# Altium schematic symbol library MCU_Microchip_ATmega.SchLib: 440 symbols (part 6 of 9)
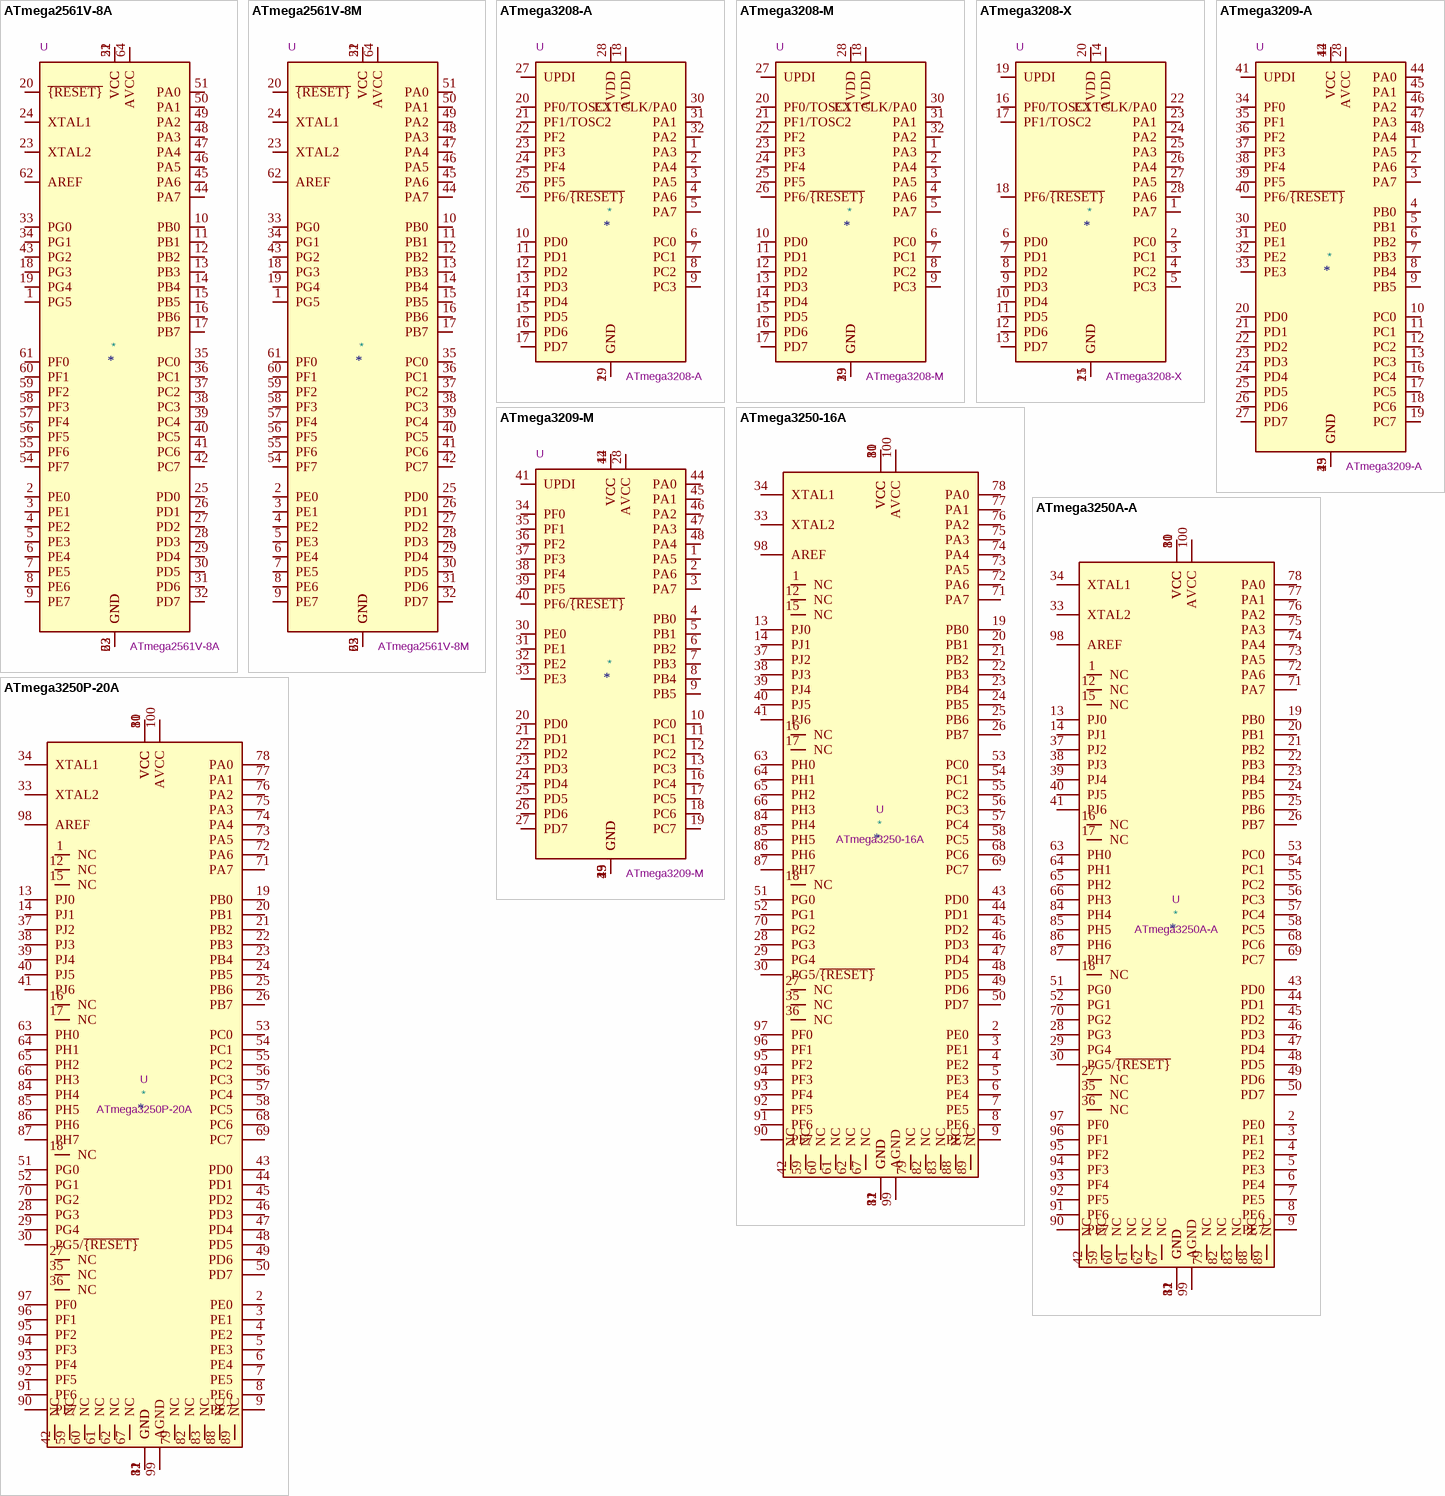
[diagram p45: symbols ATmega2561V-8A to ATmega3250P-20A]

## ATmega3250-16A
designator *  value ATmega3250-16A  Reference: U
16MHz, 32kB Flash, 2kB SRAM, 1kB EEPROM, JTAG, TQFP-100; ki_keywords: AVR 8bit Microcontroller MegaAVR; ki_fp_filters: TQFP*14x14mm*P0.5mm*; Footprint: Package_QFP:TQFP-100_14x14mm_P0.5mm; Datasheet: http://ww1.microchip.com/downloads/en/DeviceDoc/doc2570.pdf; Description_: 16MHz, 32kB Flash, 2kB SRAM, 1kB EEPROM, JTAG, TQFP-100
pins: 1 NC, 2 PE0, 3 PE1, 4 PE2, 5 PE3, 6 PE4, 7 PE5, 8 PE6, 9 PE7, 10 VCC, 11 GND, 12 NC, 13 PJ0, 14 PJ1, 15 NC, 16 NC, 17 NC, 18 NC, 19 PB0, 20 PB1, 21 PB2, 22 PB3, 23 PB4, 24 PB5, 25 PB6, 26 PB7, 27 NC, 28 PG3, 29 PG4, 30 PG5/~{{RESET}}, 31 VCC, 32 GND, 33 XTAL2, 34 XTAL1, 35 NC, 36 NC, 37 PJ2, 38 PJ3, 39 PJ4, 40 PJ5, 41 PJ6, 42 NC, 43 PD0, 44 PD1, 45 PD2, 46 PD3, 47 PD4, 48 PD5, 49 PD6, 50 PD7, 51 PG0, 52 PG1, 53 PC0, 54 PC1, 55 PC2, 56 PC3, 57 PC4, 58 PC5, 59 NC, 60 NC, 61 NC, 62 NC, 63 PH0, 64 PH1, 65 PH2, 66 PH3, 67 NC, 68 PC6, 69 PC7, 70 PG2, 71 PA7, 72 PA6, 73 PA5, 74 PA4, 75 PA3, 76 PA2, 77 PA1, 78 PA0, 79 NC, 80 VCC, 81 GND, 82 NC, 83 NC, 84 PH4, 85 PH5, 86 PH6, 87 PH7, 88 NC, 89 NC, 90 PF7, 91 PF6, 92 PF5, 93 PF4, 94 PF3, 95 PF2, 96 PF1, 97 PF0, 98 AREF, 99 AGND, 100 AVCC

## ATmega3250A-A
designator *  value ATmega3250A-A  Reference: U
20MHz, 32kB Flash, 2kB SRAM, 1kB EEPROM, JTAG, TQFP-100; ki_keywords: AVR 8bit Microcontroller MegaAVR; ki_fp_filters: TQFP*14x14mm*P0.5mm*; Footprint: Package_QFP:TQFP-100_14x14mm_P0.5mm; Datasheet: http://ww1.microchip.com/downloads/en/DeviceDoc/atmel-8285-8-bit-avr-microcontroller-atmega165a_pa_325a_pa_3250a_pa_645a_p_6450a_p_datasheet.pdf; Description_: 20MHz, 32kB Flash, 2kB SRAM, 1kB EEPROM, JTAG, TQFP-100
pins: 1 NC, 2 PE0, 3 PE1, 4 PE2, 5 PE3, 6 PE4, 7 PE5, 8 PE6, 9 PE7, 10 VCC, 11 GND, 12 NC, 13 PJ0, 14 PJ1, 15 NC, 16 NC, 17 NC, 18 NC, 19 PB0, 20 PB1, 21 PB2, 22 PB3, 23 PB4, 24 PB5, 25 PB6, 26 PB7, 27 NC, 28 PG3, 29 PG4, 30 PG5/~{{RESET}}, 31 VCC, 32 GND, 33 XTAL2, 34 XTAL1, 35 NC, 36 NC, 37 PJ2, 38 PJ3, 39 PJ4, 40 PJ5, 41 PJ6, 42 NC, 43 PD0, 44 PD1, 45 PD2, 46 PD3, 47 PD4, 48 PD5, 49 PD6, 50 PD7, 51 PG0, 52 PG1, 53 PC0, 54 PC1, 55 PC2, 56 PC3, 57 PC4, 58 PC5, 59 NC, 60 NC, 61 NC, 62 NC, 63 PH0, 64 PH1, 65 PH2, 66 PH3, 67 NC, 68 PC6, 69 PC7, 70 PG2, 71 PA7, 72 PA6, 73 PA5, 74 PA4, 75 PA3, 76 PA2, 77 PA1, 78 PA0, 79 NC, 80 VCC, 81 GND, 82 NC, 83 NC, 84 PH4, 85 PH5, 86 PH6, 87 PH7, 88 NC, 89 NC, 90 PF7, 91 PF6, 92 PF5, 93 PF4, 94 PF3, 95 PF2, 96 PF1, 97 PF0, 98 AREF, 99 AGND, 100 AVCC

## ATmega3250P-20A
designator *  value ATmega3250P-20A  Reference: U
20MHz, 32kB Flash, 2kB SRAM, 1kB EEPROM, JTAG, TQFP-100; ki_keywords: AVR 8bit Microcontroller MegaAVR; ki_fp_filters: TQFP*14x14mm*P0.5mm*; Footprint: Package_QFP:TQFP-100_14x14mm_P0.5mm; Datasheet: http://ww1.microchip.com/downloads/en/DeviceDoc/doc8023.pdf; Description_: 20MHz, 32kB Flash, 2kB SRAM, 1kB EEPROM, JTAG, TQFP-100
pins: 1 NC, 2 PE0, 3 PE1, 4 PE2, 5 PE3, 6 PE4, 7 PE5, 8 PE6, 9 PE7, 10 VCC, 11 GND, 12 NC, 13 PJ0, 14 PJ1, 15 NC, 16 NC, 17 NC, 18 NC, 19 PB0, 20 PB1, 21 PB2, 22 PB3, 23 PB4, 24 PB5, 25 PB6, 26 PB7, 27 NC, 28 PG3, 29 PG4, 30 PG5/~{{RESET}}, 31 VCC, 32 GND, 33 XTAL2, 34 XTAL1, 35 NC, 36 NC, 37 PJ2, 38 PJ3, 39 PJ4, 40 PJ5, 41 PJ6, 42 NC, 43 PD0, 44 PD1, 45 PD2, 46 PD3, 47 PD4, 48 PD5, 49 PD6, 50 PD7, 51 PG0, 52 PG1, 53 PC0, 54 PC1, 55 PC2, 56 PC3, 57 PC4, 58 PC5, 59 NC, 60 NC, 61 NC, 62 NC, 63 PH0, 64 PH1, 65 PH2, 66 PH3, 67 NC, 68 PC6, 69 PC7, 70 PG2, 71 PA7, 72 PA6, 73 PA5, 74 PA4, 75 PA3, 76 PA2, 77 PA1, 78 PA0, 79 NC, 80 VCC, 81 GND, 82 NC, 83 NC, 84 PH4, 85 PH5, 86 PH6, 87 PH7, 88 NC, 89 NC, 90 PF7, 91 PF6, 92 PF5, 93 PF4, 94 PF3, 95 PF2, 96 PF1, 97 PF0, 98 AREF, 99 AGND, 100 AVCC

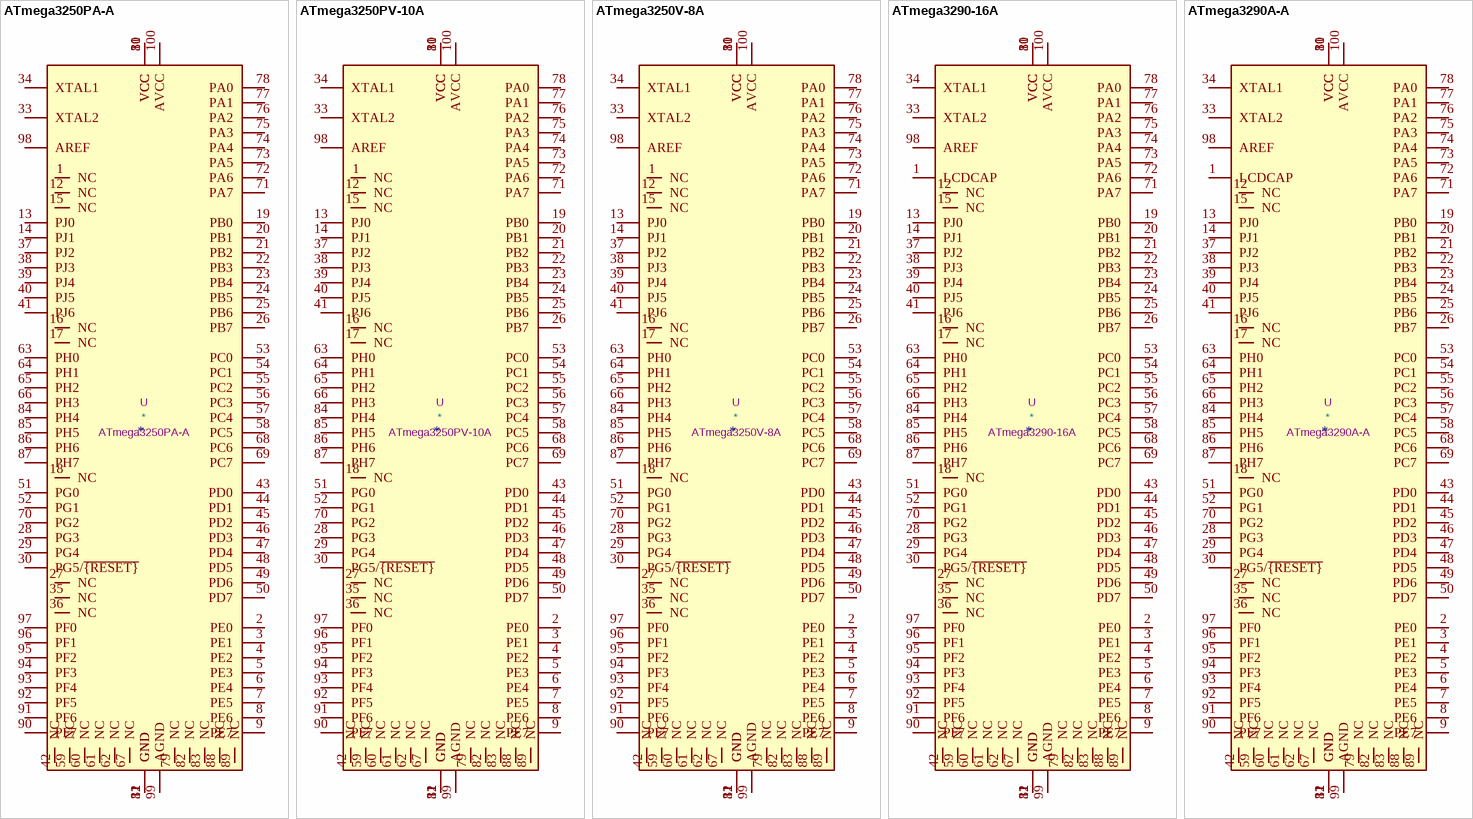
[diagram p26: symbols ATmega3250PA-A to ATmega3290A-A]

## ATmega3250PA-A
designator *  value ATmega3250PA-A  Reference: U
20MHz, 32kB Flash, 2kB SRAM, 1kB EEPROM, JTAG, TQFP-100; ki_keywords: AVR 8bit Microcontroller MegaAVR; ki_fp_filters: TQFP*14x14mm*P0.5mm*; Footprint: Package_QFP:TQFP-100_14x14mm_P0.5mm; Datasheet: http://ww1.microchip.com/downloads/en/DeviceDoc/atmel-8285-8-bit-avr-microcontroller-atmega165a_pa_325a_pa_3250a_pa_645a_p_6450a_p_datasheet.pdf; Description_: 20MHz, 32kB Flash, 2kB SRAM, 1kB EEPROM, JTAG, TQFP-100
pins: 1 NC, 2 PE0, 3 PE1, 4 PE2, 5 PE3, 6 PE4, 7 PE5, 8 PE6, 9 PE7, 10 VCC, 11 GND, 12 NC, 13 PJ0, 14 PJ1, 15 NC, 16 NC, 17 NC, 18 NC, 19 PB0, 20 PB1, 21 PB2, 22 PB3, 23 PB4, 24 PB5, 25 PB6, 26 PB7, 27 NC, 28 PG3, 29 PG4, 30 PG5/~{{RESET}}, 31 VCC, 32 GND, 33 XTAL2, 34 XTAL1, 35 NC, 36 NC, 37 PJ2, 38 PJ3, 39 PJ4, 40 PJ5, 41 PJ6, 42 NC, 43 PD0, 44 PD1, 45 PD2, 46 PD3, 47 PD4, 48 PD5, 49 PD6, 50 PD7, 51 PG0, 52 PG1, 53 PC0, 54 PC1, 55 PC2, 56 PC3, 57 PC4, 58 PC5, 59 NC, 60 NC, 61 NC, 62 NC, 63 PH0, 64 PH1, 65 PH2, 66 PH3, 67 NC, 68 PC6, 69 PC7, 70 PG2, 71 PA7, 72 PA6, 73 PA5, 74 PA4, 75 PA3, 76 PA2, 77 PA1, 78 PA0, 79 NC, 80 VCC, 81 GND, 82 NC, 83 NC, 84 PH4, 85 PH5, 86 PH6, 87 PH7, 88 NC, 89 NC, 90 PF7, 91 PF6, 92 PF5, 93 PF4, 94 PF3, 95 PF2, 96 PF1, 97 PF0, 98 AREF, 99 AGND, 100 AVCC

## ATmega3250PV-10A
designator *  value ATmega3250PV-10A  Reference: U
10MHz, 32kB Flash, 2kB SRAM, 1kB EEPROM, JTAG, TQFP-100; ki_keywords: AVR 8bit Microcontroller MegaAVR; ki_fp_filters: TQFP*14x14mm*P0.5mm*; Footprint: Package_QFP:TQFP-100_14x14mm_P0.5mm; Datasheet: http://ww1.microchip.com/downloads/en/DeviceDoc/doc8023.pdf; Description_: 10MHz, 32kB Flash, 2kB SRAM, 1kB EEPROM, JTAG, TQFP-100
pins: 1 NC, 2 PE0, 3 PE1, 4 PE2, 5 PE3, 6 PE4, 7 PE5, 8 PE6, 9 PE7, 10 VCC, 11 GND, 12 NC, 13 PJ0, 14 PJ1, 15 NC, 16 NC, 17 NC, 18 NC, 19 PB0, 20 PB1, 21 PB2, 22 PB3, 23 PB4, 24 PB5, 25 PB6, 26 PB7, 27 NC, 28 PG3, 29 PG4, 30 PG5/~{{RESET}}, 31 VCC, 32 GND, 33 XTAL2, 34 XTAL1, 35 NC, 36 NC, 37 PJ2, 38 PJ3, 39 PJ4, 40 PJ5, 41 PJ6, 42 NC, 43 PD0, 44 PD1, 45 PD2, 46 PD3, 47 PD4, 48 PD5, 49 PD6, 50 PD7, 51 PG0, 52 PG1, 53 PC0, 54 PC1, 55 PC2, 56 PC3, 57 PC4, 58 PC5, 59 NC, 60 NC, 61 NC, 62 NC, 63 PH0, 64 PH1, 65 PH2, 66 PH3, 67 NC, 68 PC6, 69 PC7, 70 PG2, 71 PA7, 72 PA6, 73 PA5, 74 PA4, 75 PA3, 76 PA2, 77 PA1, 78 PA0, 79 NC, 80 VCC, 81 GND, 82 NC, 83 NC, 84 PH4, 85 PH5, 86 PH6, 87 PH7, 88 NC, 89 NC, 90 PF7, 91 PF6, 92 PF5, 93 PF4, 94 PF3, 95 PF2, 96 PF1, 97 PF0, 98 AREF, 99 AGND, 100 AVCC

## ATmega3250V-8A
designator *  value ATmega3250V-8A  Reference: U
8MHz, 32kB Flash, 2kB SRAM, 1kB EEPROM, JTAG, TQFP-100; ki_keywords: AVR 8bit Microcontroller MegaAVR; ki_fp_filters: TQFP*14x14mm*P0.5mm*; Footprint: Package_QFP:TQFP-100_14x14mm_P0.5mm; Datasheet: http://ww1.microchip.com/downloads/en/DeviceDoc/doc2570.pdf; Description_: 8MHz, 32kB Flash, 2kB SRAM, 1kB EEPROM, JTAG, TQFP-100
pins: 1 NC, 2 PE0, 3 PE1, 4 PE2, 5 PE3, 6 PE4, 7 PE5, 8 PE6, 9 PE7, 10 VCC, 11 GND, 12 NC, 13 PJ0, 14 PJ1, 15 NC, 16 NC, 17 NC, 18 NC, 19 PB0, 20 PB1, 21 PB2, 22 PB3, 23 PB4, 24 PB5, 25 PB6, 26 PB7, 27 NC, 28 PG3, 29 PG4, 30 PG5/~{{RESET}}, 31 VCC, 32 GND, 33 XTAL2, 34 XTAL1, 35 NC, 36 NC, 37 PJ2, 38 PJ3, 39 PJ4, 40 PJ5, 41 PJ6, 42 NC, 43 PD0, 44 PD1, 45 PD2, 46 PD3, 47 PD4, 48 PD5, 49 PD6, 50 PD7, 51 PG0, 52 PG1, 53 PC0, 54 PC1, 55 PC2, 56 PC3, 57 PC4, 58 PC5, 59 NC, 60 NC, 61 NC, 62 NC, 63 PH0, 64 PH1, 65 PH2, 66 PH3, 67 NC, 68 PC6, 69 PC7, 70 PG2, 71 PA7, 72 PA6, 73 PA5, 74 PA4, 75 PA3, 76 PA2, 77 PA1, 78 PA0, 79 NC, 80 VCC, 81 GND, 82 NC, 83 NC, 84 PH4, 85 PH5, 86 PH6, 87 PH7, 88 NC, 89 NC, 90 PF7, 91 PF6, 92 PF5, 93 PF4, 94 PF3, 95 PF2, 96 PF1, 97 PF0, 98 AREF, 99 AGND, 100 AVCC

## ATmega3290-16A
designator *  value ATmega3290-16A  Reference: U
16MHz, 32kB Flash, 2kB SRAM, 1kB EEPROM, JTAG, TQFP-100; ki_keywords: AVR 8bit Microcontroller MegaAVR; ki_fp_filters: TQFP*14x14mm*P0.5mm*; Footprint: Package_QFP:TQFP-100_14x14mm_P0.5mm; Datasheet: http://ww1.microchip.com/downloads/en/DeviceDoc/doc2552.pdf; Description_: 16MHz, 32kB Flash, 2kB SRAM, 1kB EEPROM, JTAG, TQFP-100
pins: 1 LCDCAP, 2 PE0, 3 PE1, 4 PE2, 5 PE3, 6 PE4, 7 PE5, 8 PE6, 9 PE7, 10 VCC, 11 GND, 12 NC, 13 PJ0, 14 PJ1, 15 NC, 16 NC, 17 NC, 18 NC, 19 PB0, 20 PB1, 21 PB2, 22 PB3, 23 PB4, 24 PB5, 25 PB6, 26 PB7, 27 NC, 28 PG3, 29 PG4, 30 PG5/~{{RESET}}, 31 VCC, 32 GND, 33 XTAL2, 34 XTAL1, 35 NC, 36 NC, 37 PJ2, 38 PJ3, 39 PJ4, 40 PJ5, 41 PJ6, 42 NC, 43 PD0, 44 PD1, 45 PD2, 46 PD3, 47 PD4, 48 PD5, 49 PD6, 50 PD7, 51 PG0, 52 PG1, 53 PC0, 54 PC1, 55 PC2, 56 PC3, 57 PC4, 58 PC5, 59 NC, 60 NC, 61 NC, 62 NC, 63 PH0, 64 PH1, 65 PH2, 66 PH3, 67 NC, 68 PC6, 69 PC7, 70 PG2, 71 PA7, 72 PA6, 73 PA5, 74 PA4, 75 PA3, 76 PA2, 77 PA1, 78 PA0, 79 NC, 80 VCC, 81 GND, 82 NC, 83 NC, 84 PH4, 85 PH5, 86 PH6, 87 PH7, 88 NC, 89 NC, 90 PF7, 91 PF6, 92 PF5, 93 PF4, 94 PF3, 95 PF2, 96 PF1, 97 PF0, 98 AREF, 99 AGND, 100 AVCC

## ATmega3290A-A
designator *  value ATmega3290A-A  Reference: U
20MHz, 32kB Flash, 2kB SRAM, 1kB EEPROM, JTAG, TQFP-100; ki_keywords: AVR 8bit Microcontroller MegaAVR; ki_fp_filters: TQFP*14x14mm*P0.5mm*; Footprint: Package_QFP:TQFP-100_14x14mm_P0.5mm; Datasheet: http://ww1.microchip.com/downloads/en/DeviceDoc/atmel-8284-8-bit-avr-microcontroller-atmega169a_pa_329a_pa_3290a_pa_649a_p_6490a_p_datasheet.pdf; Description_: 20MHz, 32kB Flash, 2kB SRAM, 1kB EEPROM, JTAG, TQFP-100
pins: 1 LCDCAP, 2 PE0, 3 PE1, 4 PE2, 5 PE3, 6 PE4, 7 PE5, 8 PE6, 9 PE7, 10 VCC, 11 GND, 12 NC, 13 PJ0, 14 PJ1, 15 NC, 16 NC, 17 NC, 18 NC, 19 PB0, 20 PB1, 21 PB2, 22 PB3, 23 PB4, 24 PB5, 25 PB6, 26 PB7, 27 NC, 28 PG3, 29 PG4, 30 PG5/~{{RESET}}, 31 VCC, 32 GND, 33 XTAL2, 34 XTAL1, 35 NC, 36 NC, 37 PJ2, 38 PJ3, 39 PJ4, 40 PJ5, 41 PJ6, 42 NC, 43 PD0, 44 PD1, 45 PD2, 46 PD3, 47 PD4, 48 PD5, 49 PD6, 50 PD7, 51 PG0, 52 PG1, 53 PC0, 54 PC1, 55 PC2, 56 PC3, 57 PC4, 58 PC5, 59 NC, 60 NC, 61 NC, 62 NC, 63 PH0, 64 PH1, 65 PH2, 66 PH3, 67 NC, 68 PC6, 69 PC7, 70 PG2, 71 PA7, 72 PA6, 73 PA5, 74 PA4, 75 PA3, 76 PA2, 77 PA1, 78 PA0, 79 NC, 80 VCC, 81 GND, 82 NC, 83 NC, 84 PH4, 85 PH5, 86 PH6, 87 PH7, 88 NC, 89 NC, 90 PF7, 91 PF6, 92 PF5, 93 PF4, 94 PF3, 95 PF2, 96 PF1, 97 PF0, 98 AREF, 99 AGND, 100 AVCC

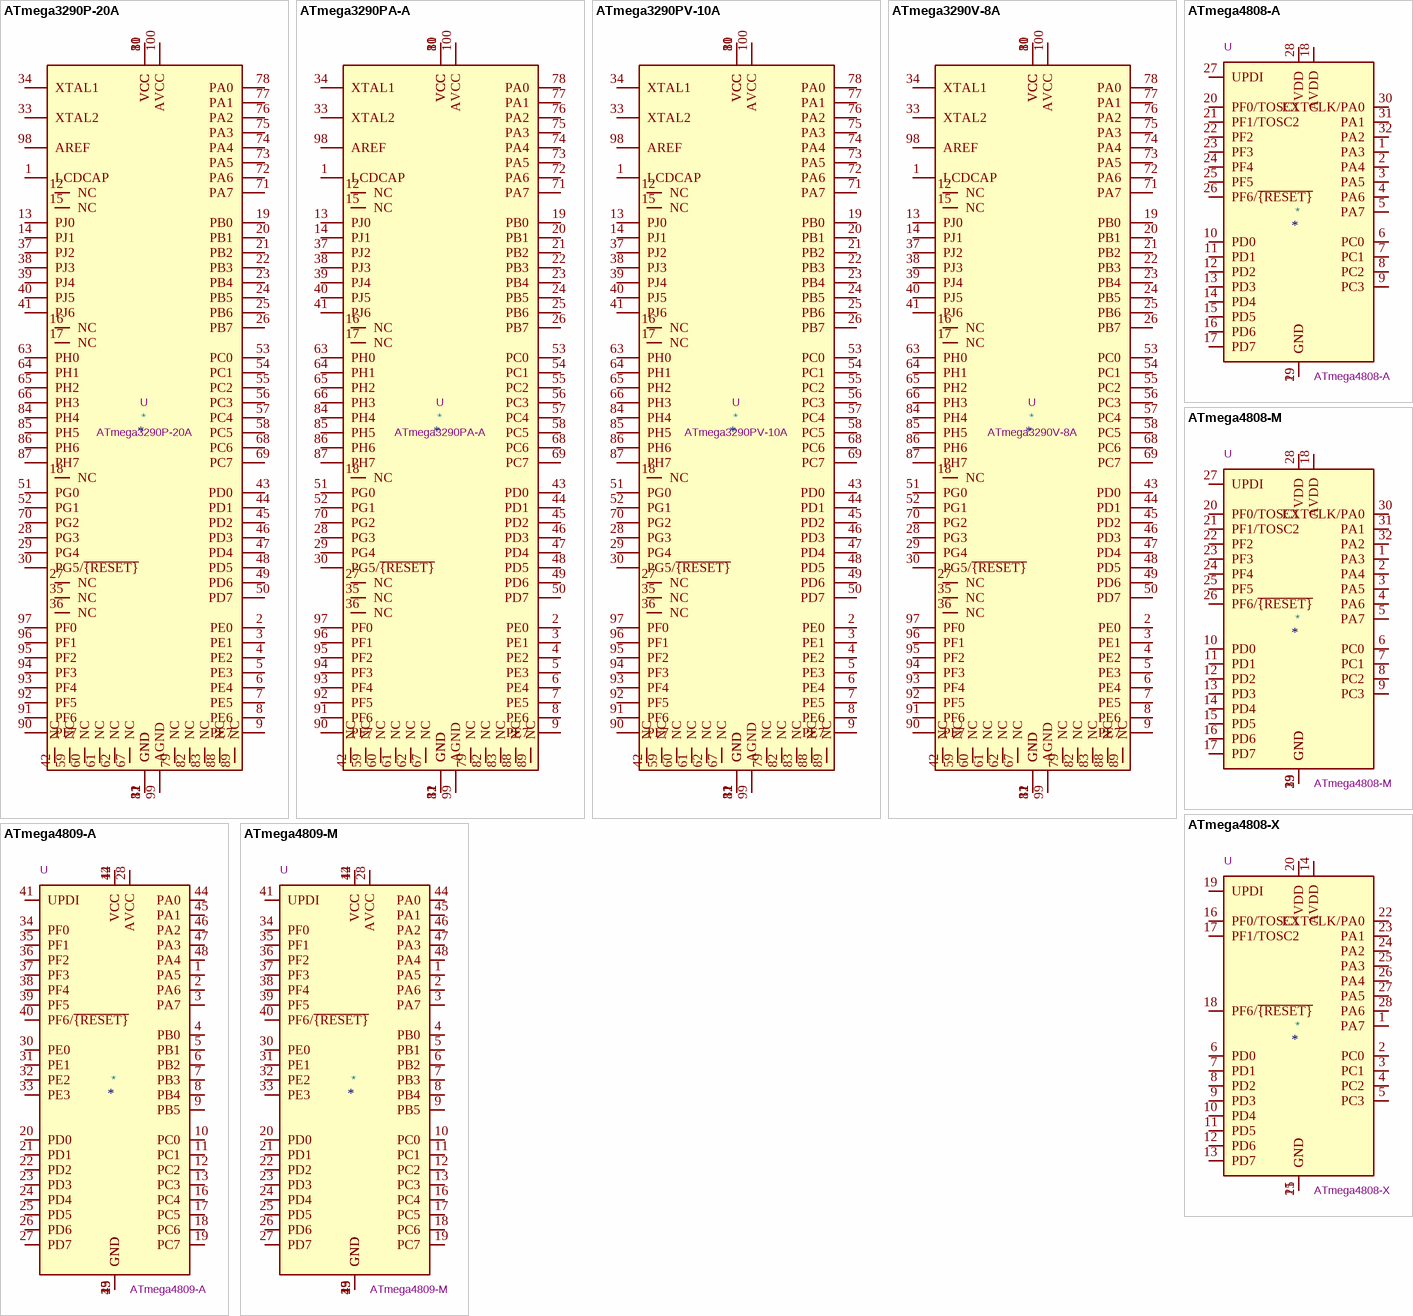
[diagram p27: symbols ATmega3290P-20A to ATmega4809-M]

## ATmega3290P-20A
designator *  value ATmega3290P-20A  Reference: U
20MHz, 32kB Flash, 2kB SRAM, 1kB EEPROM, JTAG, TQFP-100; ki_keywords: AVR 8bit Microcontroller MegaAVR; ki_fp_filters: TQFP*14x14mm*P0.5mm*; Footprint: Package_QFP:TQFP-100_14x14mm_P0.5mm; Datasheet: http://ww1.microchip.com/downloads/en/DeviceDoc/Atmel-8021-AVR-ATmega329P-3290P_Datasheet.pdf; Description_: 20MHz, 32kB Flash, 2kB SRAM, 1kB EEPROM, JTAG, TQFP-100
pins: 1 LCDCAP, 2 PE0, 3 PE1, 4 PE2, 5 PE3, 6 PE4, 7 PE5, 8 PE6, 9 PE7, 10 VCC, 11 GND, 12 NC, 13 PJ0, 14 PJ1, 15 NC, 16 NC, 17 NC, 18 NC, 19 PB0, 20 PB1, 21 PB2, 22 PB3, 23 PB4, 24 PB5, 25 PB6, 26 PB7, 27 NC, 28 PG3, 29 PG4, 30 PG5/~{{RESET}}, 31 VCC, 32 GND, 33 XTAL2, 34 XTAL1, 35 NC, 36 NC, 37 PJ2, 38 PJ3, 39 PJ4, 40 PJ5, 41 PJ6, 42 NC, 43 PD0, 44 PD1, 45 PD2, 46 PD3, 47 PD4, 48 PD5, 49 PD6, 50 PD7, 51 PG0, 52 PG1, 53 PC0, 54 PC1, 55 PC2, 56 PC3, 57 PC4, 58 PC5, 59 NC, 60 NC, 61 NC, 62 NC, 63 PH0, 64 PH1, 65 PH2, 66 PH3, 67 NC, 68 PC6, 69 PC7, 70 PG2, 71 PA7, 72 PA6, 73 PA5, 74 PA4, 75 PA3, 76 PA2, 77 PA1, 78 PA0, 79 NC, 80 VCC, 81 GND, 82 NC, 83 NC, 84 PH4, 85 PH5, 86 PH6, 87 PH7, 88 NC, 89 NC, 90 PF7, 91 PF6, 92 PF5, 93 PF4, 94 PF3, 95 PF2, 96 PF1, 97 PF0, 98 AREF, 99 AGND, 100 AVCC

## ATmega3290PA-A
designator *  value ATmega3290PA-A  Reference: U
20MHz, 32kB Flash, 2kB SRAM, 1kB EEPROM, JTAG, TQFP-100; ki_keywords: AVR 8bit Microcontroller MegaAVR; ki_fp_filters: TQFP*14x14mm*P0.5mm*; Footprint: Package_QFP:TQFP-100_14x14mm_P0.5mm; Datasheet: http://ww1.microchip.com/downloads/en/DeviceDoc/atmel-8284-8-bit-avr-microcontroller-atmega169a_pa_329a_pa_3290a_pa_649a_p_6490a_p_datasheet.pdf; Description_: 20MHz, 32kB Flash, 2kB SRAM, 1kB EEPROM, JTAG, TQFP-100
pins: 1 LCDCAP, 2 PE0, 3 PE1, 4 PE2, 5 PE3, 6 PE4, 7 PE5, 8 PE6, 9 PE7, 10 VCC, 11 GND, 12 NC, 13 PJ0, 14 PJ1, 15 NC, 16 NC, 17 NC, 18 NC, 19 PB0, 20 PB1, 21 PB2, 22 PB3, 23 PB4, 24 PB5, 25 PB6, 26 PB7, 27 NC, 28 PG3, 29 PG4, 30 PG5/~{{RESET}}, 31 VCC, 32 GND, 33 XTAL2, 34 XTAL1, 35 NC, 36 NC, 37 PJ2, 38 PJ3, 39 PJ4, 40 PJ5, 41 PJ6, 42 NC, 43 PD0, 44 PD1, 45 PD2, 46 PD3, 47 PD4, 48 PD5, 49 PD6, 50 PD7, 51 PG0, 52 PG1, 53 PC0, 54 PC1, 55 PC2, 56 PC3, 57 PC4, 58 PC5, 59 NC, 60 NC, 61 NC, 62 NC, 63 PH0, 64 PH1, 65 PH2, 66 PH3, 67 NC, 68 PC6, 69 PC7, 70 PG2, 71 PA7, 72 PA6, 73 PA5, 74 PA4, 75 PA3, 76 PA2, 77 PA1, 78 PA0, 79 NC, 80 VCC, 81 GND, 82 NC, 83 NC, 84 PH4, 85 PH5, 86 PH6, 87 PH7, 88 NC, 89 NC, 90 PF7, 91 PF6, 92 PF5, 93 PF4, 94 PF3, 95 PF2, 96 PF1, 97 PF0, 98 AREF, 99 AGND, 100 AVCC

## ATmega3290PV-10A
designator *  value ATmega3290PV-10A  Reference: U
10MHz, 32kB Flash, 2kB SRAM, 1kB EEPROM, JTAG, TQFP-100; ki_keywords: AVR 8bit Microcontroller MegaAVR; ki_fp_filters: TQFP*14x14mm*P0.5mm*; Footprint: Package_QFP:TQFP-100_14x14mm_P0.5mm; Datasheet: http://ww1.microchip.com/downloads/en/DeviceDoc/Atmel-8021-AVR-ATmega329P-3290P_Datasheet.pdf; Description_: 10MHz, 32kB Flash, 2kB SRAM, 1kB EEPROM, JTAG, TQFP-100
pins: 1 LCDCAP, 2 PE0, 3 PE1, 4 PE2, 5 PE3, 6 PE4, 7 PE5, 8 PE6, 9 PE7, 10 VCC, 11 GND, 12 NC, 13 PJ0, 14 PJ1, 15 NC, 16 NC, 17 NC, 18 NC, 19 PB0, 20 PB1, 21 PB2, 22 PB3, 23 PB4, 24 PB5, 25 PB6, 26 PB7, 27 NC, 28 PG3, 29 PG4, 30 PG5/~{{RESET}}, 31 VCC, 32 GND, 33 XTAL2, 34 XTAL1, 35 NC, 36 NC, 37 PJ2, 38 PJ3, 39 PJ4, 40 PJ5, 41 PJ6, 42 NC, 43 PD0, 44 PD1, 45 PD2, 46 PD3, 47 PD4, 48 PD5, 49 PD6, 50 PD7, 51 PG0, 52 PG1, 53 PC0, 54 PC1, 55 PC2, 56 PC3, 57 PC4, 58 PC5, 59 NC, 60 NC, 61 NC, 62 NC, 63 PH0, 64 PH1, 65 PH2, 66 PH3, 67 NC, 68 PC6, 69 PC7, 70 PG2, 71 PA7, 72 PA6, 73 PA5, 74 PA4, 75 PA3, 76 PA2, 77 PA1, 78 PA0, 79 NC, 80 VCC, 81 GND, 82 NC, 83 NC, 84 PH4, 85 PH5, 86 PH6, 87 PH7, 88 NC, 89 NC, 90 PF7, 91 PF6, 92 PF5, 93 PF4, 94 PF3, 95 PF2, 96 PF1, 97 PF0, 98 AREF, 99 AGND, 100 AVCC

## ATmega3290V-8A
designator *  value ATmega3290V-8A  Reference: U
8MHz, 32kB Flash, 2kB SRAM, 1kB EEPROM, JTAG, TQFP-100; ki_keywords: AVR 8bit Microcontroller MegaAVR; ki_fp_filters: TQFP*14x14mm*P0.5mm*; Footprint: Package_QFP:TQFP-100_14x14mm_P0.5mm; Datasheet: http://ww1.microchip.com/downloads/en/DeviceDoc/doc2552.pdf; Description_: 8MHz, 32kB Flash, 2kB SRAM, 1kB EEPROM, JTAG, TQFP-100
pins: 1 LCDCAP, 2 PE0, 3 PE1, 4 PE2, 5 PE3, 6 PE4, 7 PE5, 8 PE6, 9 PE7, 10 VCC, 11 GND, 12 NC, 13 PJ0, 14 PJ1, 15 NC, 16 NC, 17 NC, 18 NC, 19 PB0, 20 PB1, 21 PB2, 22 PB3, 23 PB4, 24 PB5, 25 PB6, 26 PB7, 27 NC, 28 PG3, 29 PG4, 30 PG5/~{{RESET}}, 31 VCC, 32 GND, 33 XTAL2, 34 XTAL1, 35 NC, 36 NC, 37 PJ2, 38 PJ3, 39 PJ4, 40 PJ5, 41 PJ6, 42 NC, 43 PD0, 44 PD1, 45 PD2, 46 PD3, 47 PD4, 48 PD5, 49 PD6, 50 PD7, 51 PG0, 52 PG1, 53 PC0, 54 PC1, 55 PC2, 56 PC3, 57 PC4, 58 PC5, 59 NC, 60 NC, 61 NC, 62 NC, 63 PH0, 64 PH1, 65 PH2, 66 PH3, 67 NC, 68 PC6, 69 PC7, 70 PG2, 71 PA7, 72 PA6, 73 PA5, 74 PA4, 75 PA3, 76 PA2, 77 PA1, 78 PA0, 79 NC, 80 VCC, 81 GND, 82 NC, 83 NC, 84 PH4, 85 PH5, 86 PH6, 87 PH7, 88 NC, 89 NC, 90 PF7, 91 PF6, 92 PF5, 93 PF4, 94 PF3, 95 PF2, 96 PF1, 97 PF0, 98 AREF, 99 AGND, 100 AVCC

## ATmega4808-A
designator *  value ATmega4808-A  Reference: U
20MHz, 48kB Flash, 6kB SRAM, 256B EEPROM, TQFP-32; ki_keywords: AVR 8bit Microcontroller MegaAVR; ki_fp_filters: TQFP*7x7mm*P0.8mm*; Footprint: Package_QFP:TQFP-32_7x7mm_P0.8mm; Datasheet: http://ww1.microchip.com/downloads/en/DeviceDoc/40002017A.pdf; Description_: 20MHz, 48kB Flash, 6kB SRAM, 256B EEPROM, TQFP-32
pins: 1 PA3, 2 PA4, 3 PA5, 4 PA6, 5 PA7, 6 PC0, 7 PC1, 8 PC2, 9 PC3, 10 PD0, 11 PD1, 12 PD2, 13 PD3, 14 PD4, 15 PD5, 16 PD6, 17 PD7, 18 AVDD, 19 GND, 20 PF0/TOSC1, 21 PF1/TOSC2, 22 PF2, 23 PF3, 24 PF4, 25 PF5, 26 PF6/~{{RESET}}, 27 UPDI, 28 VDD, 29 GND, 30 EXTCLK/PA0, 31 PA1, 32 PA2

## ATmega4808-M
designator *  value ATmega4808-M  Reference: U
20MHz, 48kB Flash, 6kB SRAM, 256B EEPROM, VQFN-32; ki_keywords: AVR 8bit Microcontroller MegaAVR; ki_fp_filters: QFN*1EP*5x5mm*P0.5mm*; Footprint: Package_DFN_QFN:QFN-32-1EP_5x5mm_P0.5mm_EP3.1x3.1mm_ThermalVias; Datasheet: http://ww1.microchip.com/downloads/en/DeviceDoc/40002017A.pdf; Description_: 20MHz, 48kB Flash, 6kB SRAM, 256B EEPROM, VQFN-32
pins: 1 PA3, 2 PA4, 3 PA5, 4 PA6, 5 PA7, 6 PC0, 7 PC1, 8 PC2, 9 PC3, 10 PD0, 11 PD1, 12 PD2, 13 PD3, 14 PD4, 15 PD5, 16 PD6, 17 PD7, 18 AVDD, 19 GND, 20 PF0/TOSC1, 21 PF1/TOSC2, 22 PF2, 23 PF3, 24 PF4, 25 PF5, 26 PF6/~{{RESET}}, 27 UPDI, 28 VDD, 29 GND, 30 EXTCLK/PA0, 31 PA1, 32 PA2, 33 GND

## ATmega4808-X
designator *  value ATmega4808-X  Reference: U
20MHz, 48kB Flash, 6kB SRAM, 256B EEPROM, SSOP-28; ki_keywords: AVR 8bit Microcontroller MegaAVR; ki_fp_filters: SSOP*5.3x10.2mm*P0.65mm*; Footprint: Package_SO:SSOP-28_5.3x10.2mm_P0.65mm; Datasheet: http://ww1.microchip.com/downloads/en/DeviceDoc/40002018A.pdf; Description_: 20MHz, 48kB Flash, 6kB SRAM, 256B EEPROM, SSOP-28
pins: 1 PA7, 2 PC0, 3 PC1, 4 PC2, 5 PC3, 6 PD0, 7 PD1, 8 PD2, 9 PD3, 10 PD4, 11 PD5, 12 PD6, 13 PD7, 14 AVDD, 15 GND, 16 PF0/TOSC1, 17 PF1/TOSC2, 18 PF6/~{{RESET}}, 19 UPDI, 20 VDD, 21 GND, 22 EXTCLK/PA0, 23 PA1, 24 PA2, 25 PA3, 26 PA4, 27 PA5, 28 PA6

## ATmega4809-A
designator *  value ATmega4809-A  Reference: U
20MHz, 48kB Flash, 6kB SRAM, 256B EEPROM, TQFP-48; ki_keywords: AVR 8bit Microcontroller MegaAVR; ki_fp_filters: TQFP*7x7mm*P0.5mm*; Footprint: Package_QFP:TQFP-48_7x7mm_P0.5mm; Datasheet: http://ww1.microchip.com/downloads/en/DeviceDoc/40002016A.pdf; Description_: 20MHz, 48kB Flash, 6kB SRAM, 256B EEPROM, TQFP-48
pins: 1 PA5, 2 PA6, 3 PA7, 4 PB0, 5 PB1, 6 PB2, 7 PB3, 8 PB4, 9 PB5, 10 PC0, 11 PC1, 12 PC2, 13 PC3, 14 VCC, 15 GND, 16 PC4, 17 PC5, 18 PC6, 19 PC7, 20 PD0, 21 PD1, 22 PD2, 23 PD3, 24 PD4, 25 PD5, 26 PD6, 27 PD7, 28 AVCC, 29 GND, 30 PE0, 31 PE1, 32 PE2, 33 PE3, 34 PF0, 35 PF1, 36 PF2, 37 PF3, 38 PF4, 39 PF5, 40 PF6/~{{RESET}}, 41 UPDI, 42 VCC, 43 GND, 44 PA0, 45 PA1, 46 PA2, 47 PA3, 48 PA4

## ATmega4809-M
designator *  value ATmega4809-M  Reference: U
20MHz, 48kB Flash, 6kB SRAM, 256B EEPROM, UQFN-48; ki_keywords: AVR 8bit Microcontroller MegaAVR; ki_fp_filters: UQFN*1EP*6x6mm*P0.4mm*; Footprint: Package_DFN_QFN:UQFN-48-1EP_6x6mm_P0.4mm_EP4.62x4.62mm; Datasheet: http://ww1.microchip.com/downloads/en/DeviceDoc/40002016A.pdf; Description_: 20MHz, 48kB Flash, 6kB SRAM, 256B EEPROM, UQFN-48
pins: 1 PA5, 2 PA6, 3 PA7, 4 PB0, 5 PB1, 6 PB2, 7 PB3, 8 PB4, 9 PB5, 10 PC0, 11 PC1, 12 PC2, 13 PC3, 14 VCC, 15 GND, 16 PC4, 17 PC5, 18 PC6, 19 PC7, 20 PD0, 21 PD1, 22 PD2, 23 PD3, 24 PD4, 25 PD5, 26 PD6, 27 PD7, 28 AVCC, 29 GND, 30 PE0, 31 PE1, 32 PE2, 33 PE3, 34 PF0, 35 PF1, 36 PF2, 37 PF3, 38 PF4, 39 PF5, 40 PF6/~{{RESET}}, 41 UPDI, 42 VCC, 43 GND, 44 PA0, 45 PA1, 46 PA2, 47 PA3, 48 PA4, 49 GND

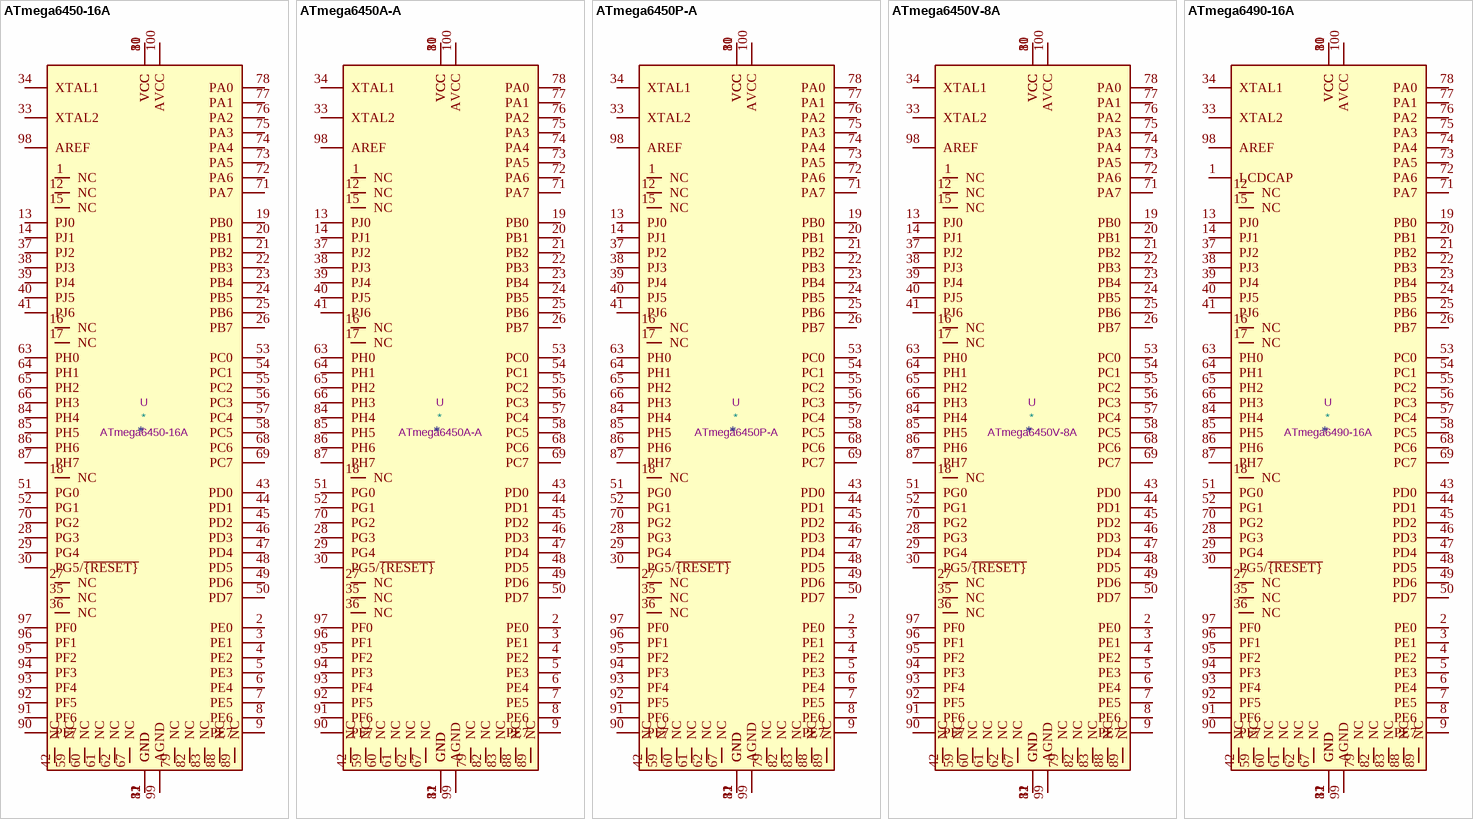
[diagram p28: symbols ATmega6450-16A to ATmega6490-16A]

## ATmega6450-16A
designator *  value ATmega6450-16A  Reference: U
16MHz, 64kB Flash, 4kB SRAM, 2kB EEPROM, JTAG, TQFP-100; ki_keywords: AVR 8bit Microcontroller MegaAVR; ki_fp_filters: TQFP*14x14mm*P0.5mm*; Footprint: Package_QFP:TQFP-100_14x14mm_P0.5mm; Datasheet: http://ww1.microchip.com/downloads/en/DeviceDoc/doc2570.pdf; Description_: 16MHz, 64kB Flash, 4kB SRAM, 2kB EEPROM, JTAG, TQFP-100
pins: 1 NC, 2 PE0, 3 PE1, 4 PE2, 5 PE3, 6 PE4, 7 PE5, 8 PE6, 9 PE7, 10 VCC, 11 GND, 12 NC, 13 PJ0, 14 PJ1, 15 NC, 16 NC, 17 NC, 18 NC, 19 PB0, 20 PB1, 21 PB2, 22 PB3, 23 PB4, 24 PB5, 25 PB6, 26 PB7, 27 NC, 28 PG3, 29 PG4, 30 PG5/~{{RESET}}, 31 VCC, 32 GND, 33 XTAL2, 34 XTAL1, 35 NC, 36 NC, 37 PJ2, 38 PJ3, 39 PJ4, 40 PJ5, 41 PJ6, 42 NC, 43 PD0, 44 PD1, 45 PD2, 46 PD3, 47 PD4, 48 PD5, 49 PD6, 50 PD7, 51 PG0, 52 PG1, 53 PC0, 54 PC1, 55 PC2, 56 PC3, 57 PC4, 58 PC5, 59 NC, 60 NC, 61 NC, 62 NC, 63 PH0, 64 PH1, 65 PH2, 66 PH3, 67 NC, 68 PC6, 69 PC7, 70 PG2, 71 PA7, 72 PA6, 73 PA5, 74 PA4, 75 PA3, 76 PA2, 77 PA1, 78 PA0, 79 NC, 80 VCC, 81 GND, 82 NC, 83 NC, 84 PH4, 85 PH5, 86 PH6, 87 PH7, 88 NC, 89 NC, 90 PF7, 91 PF6, 92 PF5, 93 PF4, 94 PF3, 95 PF2, 96 PF1, 97 PF0, 98 AREF, 99 AGND, 100 AVCC

## ATmega6450A-A
designator *  value ATmega6450A-A  Reference: U
20MHz, 64kB Flash, 4kB SRAM, 2kB EEPROM, JTAG, TQFP-100; ki_keywords: AVR 8bit Microcontroller MegaAVR; ki_fp_filters: TQFP*14x14mm*P0.5mm*; Footprint: Package_QFP:TQFP-100_14x14mm_P0.5mm; Datasheet: http://ww1.microchip.com/downloads/en/DeviceDoc/atmel-8285-8-bit-avr-microcontroller-atmega165a_pa_325a_pa_3250a_pa_645a_p_6450a_p_datasheet.pdf; Description_: 20MHz, 64kB Flash, 4kB SRAM, 2kB EEPROM, JTAG, TQFP-100
pins: 1 NC, 2 PE0, 3 PE1, 4 PE2, 5 PE3, 6 PE4, 7 PE5, 8 PE6, 9 PE7, 10 VCC, 11 GND, 12 NC, 13 PJ0, 14 PJ1, 15 NC, 16 NC, 17 NC, 18 NC, 19 PB0, 20 PB1, 21 PB2, 22 PB3, 23 PB4, 24 PB5, 25 PB6, 26 PB7, 27 NC, 28 PG3, 29 PG4, 30 PG5/~{{RESET}}, 31 VCC, 32 GND, 33 XTAL2, 34 XTAL1, 35 NC, 36 NC, 37 PJ2, 38 PJ3, 39 PJ4, 40 PJ5, 41 PJ6, 42 NC, 43 PD0, 44 PD1, 45 PD2, 46 PD3, 47 PD4, 48 PD5, 49 PD6, 50 PD7, 51 PG0, 52 PG1, 53 PC0, 54 PC1, 55 PC2, 56 PC3, 57 PC4, 58 PC5, 59 NC, 60 NC, 61 NC, 62 NC, 63 PH0, 64 PH1, 65 PH2, 66 PH3, 67 NC, 68 PC6, 69 PC7, 70 PG2, 71 PA7, 72 PA6, 73 PA5, 74 PA4, 75 PA3, 76 PA2, 77 PA1, 78 PA0, 79 NC, 80 VCC, 81 GND, 82 NC, 83 NC, 84 PH4, 85 PH5, 86 PH6, 87 PH7, 88 NC, 89 NC, 90 PF7, 91 PF6, 92 PF5, 93 PF4, 94 PF3, 95 PF2, 96 PF1, 97 PF0, 98 AREF, 99 AGND, 100 AVCC

## ATmega6450P-A
designator *  value ATmega6450P-A  Reference: U
20MHz, 64kB Flash, 4kB SRAM, 2kB EEPROM, JTAG, TQFP-100; ki_keywords: AVR 8bit Microcontroller MegaAVR; ki_fp_filters: TQFP*14x14mm*P0.5mm*; Footprint: Package_QFP:TQFP-100_14x14mm_P0.5mm; Datasheet: http://ww1.microchip.com/downloads/en/DeviceDoc/atmel-8285-8-bit-avr-microcontroller-atmega165a_pa_325a_pa_3250a_pa_645a_p_6450a_p_datasheet.pdf; Description_: 20MHz, 64kB Flash, 4kB SRAM, 2kB EEPROM, JTAG, TQFP-100
pins: 1 NC, 2 PE0, 3 PE1, 4 PE2, 5 PE3, 6 PE4, 7 PE5, 8 PE6, 9 PE7, 10 VCC, 11 GND, 12 NC, 13 PJ0, 14 PJ1, 15 NC, 16 NC, 17 NC, 18 NC, 19 PB0, 20 PB1, 21 PB2, 22 PB3, 23 PB4, 24 PB5, 25 PB6, 26 PB7, 27 NC, 28 PG3, 29 PG4, 30 PG5/~{{RESET}}, 31 VCC, 32 GND, 33 XTAL2, 34 XTAL1, 35 NC, 36 NC, 37 PJ2, 38 PJ3, 39 PJ4, 40 PJ5, 41 PJ6, 42 NC, 43 PD0, 44 PD1, 45 PD2, 46 PD3, 47 PD4, 48 PD5, 49 PD6, 50 PD7, 51 PG0, 52 PG1, 53 PC0, 54 PC1, 55 PC2, 56 PC3, 57 PC4, 58 PC5, 59 NC, 60 NC, 61 NC, 62 NC, 63 PH0, 64 PH1, 65 PH2, 66 PH3, 67 NC, 68 PC6, 69 PC7, 70 PG2, 71 PA7, 72 PA6, 73 PA5, 74 PA4, 75 PA3, 76 PA2, 77 PA1, 78 PA0, 79 NC, 80 VCC, 81 GND, 82 NC, 83 NC, 84 PH4, 85 PH5, 86 PH6, 87 PH7, 88 NC, 89 NC, 90 PF7, 91 PF6, 92 PF5, 93 PF4, 94 PF3, 95 PF2, 96 PF1, 97 PF0, 98 AREF, 99 AGND, 100 AVCC

## ATmega6450V-8A
designator *  value ATmega6450V-8A  Reference: U
8MHz, 64kB Flash, 4kB SRAM, 2kB EEPROM, JTAG, TQFP-100; ki_keywords: AVR 8bit Microcontroller MegaAVR; ki_fp_filters: TQFP*14x14mm*P0.5mm*; Footprint: Package_QFP:TQFP-100_14x14mm_P0.5mm; Datasheet: http://ww1.microchip.com/downloads/en/DeviceDoc/doc2570.pdf; Description_: 8MHz, 64kB Flash, 4kB SRAM, 2kB EEPROM, JTAG, TQFP-100
pins: 1 NC, 2 PE0, 3 PE1, 4 PE2, 5 PE3, 6 PE4, 7 PE5, 8 PE6, 9 PE7, 10 VCC, 11 GND, 12 NC, 13 PJ0, 14 PJ1, 15 NC, 16 NC, 17 NC, 18 NC, 19 PB0, 20 PB1, 21 PB2, 22 PB3, 23 PB4, 24 PB5, 25 PB6, 26 PB7, 27 NC, 28 PG3, 29 PG4, 30 PG5/~{{RESET}}, 31 VCC, 32 GND, 33 XTAL2, 34 XTAL1, 35 NC, 36 NC, 37 PJ2, 38 PJ3, 39 PJ4, 40 PJ5, 41 PJ6, 42 NC, 43 PD0, 44 PD1, 45 PD2, 46 PD3, 47 PD4, 48 PD5, 49 PD6, 50 PD7, 51 PG0, 52 PG1, 53 PC0, 54 PC1, 55 PC2, 56 PC3, 57 PC4, 58 PC5, 59 NC, 60 NC, 61 NC, 62 NC, 63 PH0, 64 PH1, 65 PH2, 66 PH3, 67 NC, 68 PC6, 69 PC7, 70 PG2, 71 PA7, 72 PA6, 73 PA5, 74 PA4, 75 PA3, 76 PA2, 77 PA1, 78 PA0, 79 NC, 80 VCC, 81 GND, 82 NC, 83 NC, 84 PH4, 85 PH5, 86 PH6, 87 PH7, 88 NC, 89 NC, 90 PF7, 91 PF6, 92 PF5, 93 PF4, 94 PF3, 95 PF2, 96 PF1, 97 PF0, 98 AREF, 99 AGND, 100 AVCC

## ATmega6490-16A
designator *  value ATmega6490-16A  Reference: U
16MHz, 64kB Flash, 4kB SRAM, 2kB EEPROM, JTAG, TQFP-100; ki_keywords: AVR 8bit Microcontroller MegaAVR; ki_fp_filters: TQFP*14x14mm*P0.5mm*; Footprint: Package_QFP:TQFP-100_14x14mm_P0.5mm; Datasheet: http://ww1.microchip.com/downloads/en/DeviceDoc/doc2552.pdf; Description_: 16MHz, 64kB Flash, 4kB SRAM, 2kB EEPROM, JTAG, TQFP-100
pins: 1 LCDCAP, 2 PE0, 3 PE1, 4 PE2, 5 PE3, 6 PE4, 7 PE5, 8 PE6, 9 PE7, 10 VCC, 11 GND, 12 NC, 13 PJ0, 14 PJ1, 15 NC, 16 NC, 17 NC, 18 NC, 19 PB0, 20 PB1, 21 PB2, 22 PB3, 23 PB4, 24 PB5, 25 PB6, 26 PB7, 27 NC, 28 PG3, 29 PG4, 30 PG5/~{{RESET}}, 31 VCC, 32 GND, 33 XTAL2, 34 XTAL1, 35 NC, 36 NC, 37 PJ2, 38 PJ3, 39 PJ4, 40 PJ5, 41 PJ6, 42 NC, 43 PD0, 44 PD1, 45 PD2, 46 PD3, 47 PD4, 48 PD5, 49 PD6, 50 PD7, 51 PG0, 52 PG1, 53 PC0, 54 PC1, 55 PC2, 56 PC3, 57 PC4, 58 PC5, 59 NC, 60 NC, 61 NC, 62 NC, 63 PH0, 64 PH1, 65 PH2, 66 PH3, 67 NC, 68 PC6, 69 PC7, 70 PG2, 71 PA7, 72 PA6, 73 PA5, 74 PA4, 75 PA3, 76 PA2, 77 PA1, 78 PA0, 79 NC, 80 VCC, 81 GND, 82 NC, 83 NC, 84 PH4, 85 PH5, 86 PH6, 87 PH7, 88 NC, 89 NC, 90 PF7, 91 PF6, 92 PF5, 93 PF4, 94 PF3, 95 PF2, 96 PF1, 97 PF0, 98 AREF, 99 AGND, 100 AVCC

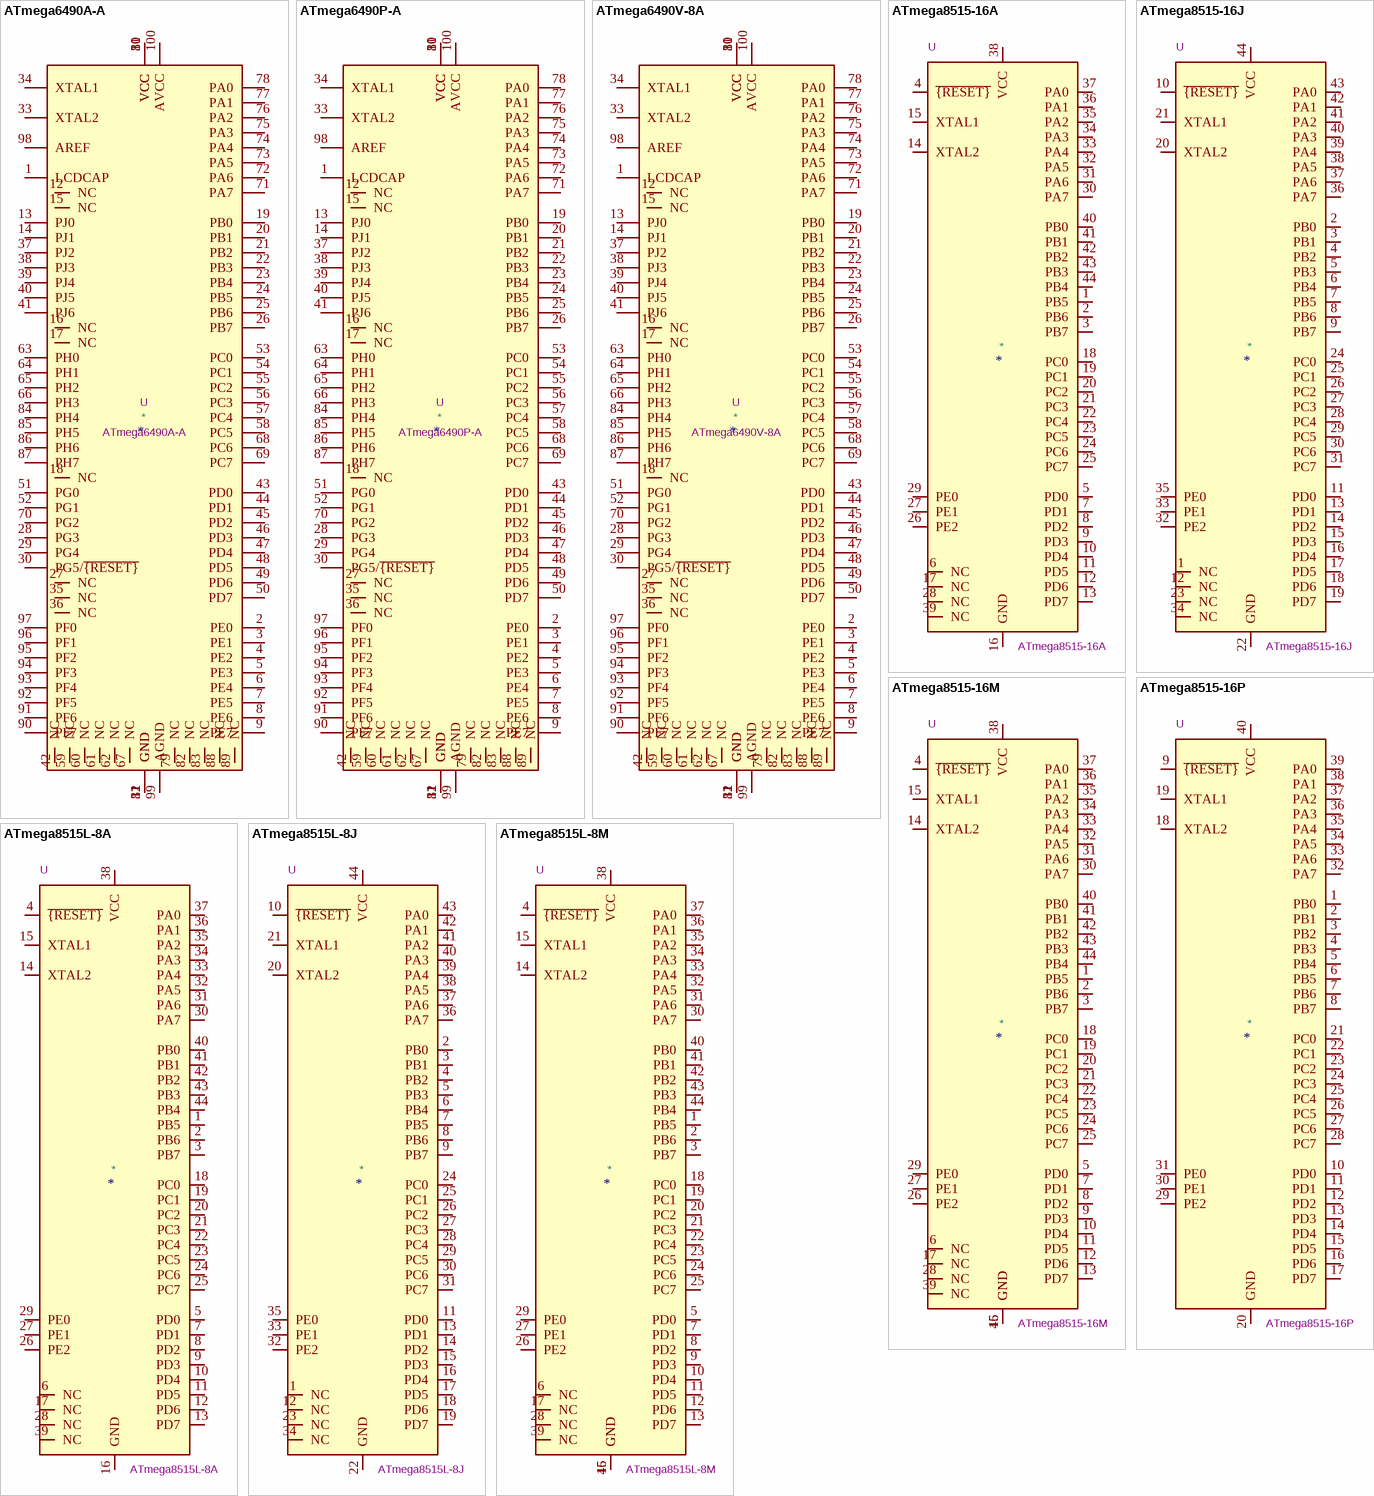
[diagram p29: symbols ATmega6490A-A to ATmega8515L-8M]

## ATmega6490A-A
designator *  value ATmega6490A-A  Reference: U
20MHz, 64kB Flash, 4kB SRAM, 2kB EEPROM, JTAG, TQFP-100; ki_keywords: AVR 8bit Microcontroller MegaAVR; ki_fp_filters: TQFP*14x14mm*P0.5mm*; Footprint: Package_QFP:TQFP-100_14x14mm_P0.5mm; Datasheet: http://ww1.microchip.com/downloads/en/DeviceDoc/atmel-8284-8-bit-avr-microcontroller-atmega169a_pa_329a_pa_3290a_pa_649a_p_6490a_p_datasheet.pdf; Description_: 20MHz, 64kB Flash, 4kB SRAM, 2kB EEPROM, JTAG, TQFP-100
pins: 1 LCDCAP, 2 PE0, 3 PE1, 4 PE2, 5 PE3, 6 PE4, 7 PE5, 8 PE6, 9 PE7, 10 VCC, 11 GND, 12 NC, 13 PJ0, 14 PJ1, 15 NC, 16 NC, 17 NC, 18 NC, 19 PB0, 20 PB1, 21 PB2, 22 PB3, 23 PB4, 24 PB5, 25 PB6, 26 PB7, 27 NC, 28 PG3, 29 PG4, 30 PG5/~{{RESET}}, 31 VCC, 32 GND, 33 XTAL2, 34 XTAL1, 35 NC, 36 NC, 37 PJ2, 38 PJ3, 39 PJ4, 40 PJ5, 41 PJ6, 42 NC, 43 PD0, 44 PD1, 45 PD2, 46 PD3, 47 PD4, 48 PD5, 49 PD6, 50 PD7, 51 PG0, 52 PG1, 53 PC0, 54 PC1, 55 PC2, 56 PC3, 57 PC4, 58 PC5, 59 NC, 60 NC, 61 NC, 62 NC, 63 PH0, 64 PH1, 65 PH2, 66 PH3, 67 NC, 68 PC6, 69 PC7, 70 PG2, 71 PA7, 72 PA6, 73 PA5, 74 PA4, 75 PA3, 76 PA2, 77 PA1, 78 PA0, 79 NC, 80 VCC, 81 GND, 82 NC, 83 NC, 84 PH4, 85 PH5, 86 PH6, 87 PH7, 88 NC, 89 NC, 90 PF7, 91 PF6, 92 PF5, 93 PF4, 94 PF3, 95 PF2, 96 PF1, 97 PF0, 98 AREF, 99 AGND, 100 AVCC

## ATmega6490P-A
designator *  value ATmega6490P-A  Reference: U
20MHz, 64kB Flash, 4kB SRAM, 2kB EEPROM, JTAG, TQFP-100; ki_keywords: AVR 8bit Microcontroller MegaAVR; ki_fp_filters: TQFP*14x14mm*P0.5mm*; Footprint: Package_QFP:TQFP-100_14x14mm_P0.5mm; Datasheet: http://ww1.microchip.com/downloads/en/DeviceDoc/atmel-8284-8-bit-avr-microcontroller-atmega169a_pa_329a_pa_3290a_pa_649a_p_6490a_p_datasheet.pdf; Description_: 20MHz, 64kB Flash, 4kB SRAM, 2kB EEPROM, JTAG, TQFP-100
pins: 1 LCDCAP, 2 PE0, 3 PE1, 4 PE2, 5 PE3, 6 PE4, 7 PE5, 8 PE6, 9 PE7, 10 VCC, 11 GND, 12 NC, 13 PJ0, 14 PJ1, 15 NC, 16 NC, 17 NC, 18 NC, 19 PB0, 20 PB1, 21 PB2, 22 PB3, 23 PB4, 24 PB5, 25 PB6, 26 PB7, 27 NC, 28 PG3, 29 PG4, 30 PG5/~{{RESET}}, 31 VCC, 32 GND, 33 XTAL2, 34 XTAL1, 35 NC, 36 NC, 37 PJ2, 38 PJ3, 39 PJ4, 40 PJ5, 41 PJ6, 42 NC, 43 PD0, 44 PD1, 45 PD2, 46 PD3, 47 PD4, 48 PD5, 49 PD6, 50 PD7, 51 PG0, 52 PG1, 53 PC0, 54 PC1, 55 PC2, 56 PC3, 57 PC4, 58 PC5, 59 NC, 60 NC, 61 NC, 62 NC, 63 PH0, 64 PH1, 65 PH2, 66 PH3, 67 NC, 68 PC6, 69 PC7, 70 PG2, 71 PA7, 72 PA6, 73 PA5, 74 PA4, 75 PA3, 76 PA2, 77 PA1, 78 PA0, 79 NC, 80 VCC, 81 GND, 82 NC, 83 NC, 84 PH4, 85 PH5, 86 PH6, 87 PH7, 88 NC, 89 NC, 90 PF7, 91 PF6, 92 PF5, 93 PF4, 94 PF3, 95 PF2, 96 PF1, 97 PF0, 98 AREF, 99 AGND, 100 AVCC

## ATmega6490V-8A
designator *  value ATmega6490V-8A  Reference: U
8MHz, 64kB Flash, 4kB SRAM, 2kB EEPROM, JTAG, TQFP-100; ki_keywords: AVR 8bit Microcontroller MegaAVR; ki_fp_filters: TQFP*14x14mm*P0.5mm*; Footprint: Package_QFP:TQFP-100_14x14mm_P0.5mm; Datasheet: http://ww1.microchip.com/downloads/en/DeviceDoc/doc2552.pdf; Description_: 8MHz, 64kB Flash, 4kB SRAM, 2kB EEPROM, JTAG, TQFP-100
pins: 1 LCDCAP, 2 PE0, 3 PE1, 4 PE2, 5 PE3, 6 PE4, 7 PE5, 8 PE6, 9 PE7, 10 VCC, 11 GND, 12 NC, 13 PJ0, 14 PJ1, 15 NC, 16 NC, 17 NC, 18 NC, 19 PB0, 20 PB1, 21 PB2, 22 PB3, 23 PB4, 24 PB5, 25 PB6, 26 PB7, 27 NC, 28 PG3, 29 PG4, 30 PG5/~{{RESET}}, 31 VCC, 32 GND, 33 XTAL2, 34 XTAL1, 35 NC, 36 NC, 37 PJ2, 38 PJ3, 39 PJ4, 40 PJ5, 41 PJ6, 42 NC, 43 PD0, 44 PD1, 45 PD2, 46 PD3, 47 PD4, 48 PD5, 49 PD6, 50 PD7, 51 PG0, 52 PG1, 53 PC0, 54 PC1, 55 PC2, 56 PC3, 57 PC4, 58 PC5, 59 NC, 60 NC, 61 NC, 62 NC, 63 PH0, 64 PH1, 65 PH2, 66 PH3, 67 NC, 68 PC6, 69 PC7, 70 PG2, 71 PA7, 72 PA6, 73 PA5, 74 PA4, 75 PA3, 76 PA2, 77 PA1, 78 PA0, 79 NC, 80 VCC, 81 GND, 82 NC, 83 NC, 84 PH4, 85 PH5, 86 PH6, 87 PH7, 88 NC, 89 NC, 90 PF7, 91 PF6, 92 PF5, 93 PF4, 94 PF3, 95 PF2, 96 PF1, 97 PF0, 98 AREF, 99 AGND, 100 AVCC

## ATmega8515-16A
designator *  value ATmega8515-16A  Reference: U
16MHz, 8kB Flash, 512B SRAM, 512B EEPROM, TQFP-44; ki_keywords: AVR 8bit Microcontroller MegaAVR; ki_fp_filters: TQFP*10x10mm*P0.8mm*; Footprint: Package_QFP:TQFP-44_10x10mm_P0.8mm; Datasheet: http://ww1.microchip.com/downloads/en/DeviceDoc/doc2512.pdf; Description_: 16MHz, 8kB Flash, 512B SRAM, 512B EEPROM, TQFP-44
pins: 1 PB5, 2 PB6, 3 PB7, 4 ~{{RESET}}, 5 PD0, 6 NC, 7 PD1, 8 PD2, 9 PD3, 10 PD4, 11 PD5, 12 PD6, 13 PD7, 14 XTAL2, 15 XTAL1, 16 GND, 17 NC, 18 PC0, 19 PC1, 20 PC2, 21 PC3, 22 PC4, 23 PC5, 24 PC6, 25 PC7, 26 PE2, 27 PE1, 28 NC, 29 PE0, 30 PA7, 31 PA6, 32 PA5, 33 PA4, 34 PA3, 35 PA2, 36 PA1, 37 PA0, 38 VCC, 39 NC, 40 PB0, 41 PB1, 42 PB2, 43 PB3, 44 PB4

## ATmega8515-16J
designator *  value ATmega8515-16J  Reference: U
16MHz, 8kB Flash, 512B SRAM, 512B EEPROM, PLCC-44; ki_keywords: AVR 8bit Microcontroller MegaAVR; ki_fp_filters: PLCC*; Footprint: Package_LCC:PLCC-44; Datasheet: http://ww1.microchip.com/downloads/en/DeviceDoc/doc2512.pdf; Description_: 16MHz, 8kB Flash, 512B SRAM, 512B EEPROM, PLCC-44
pins: 1 NC, 2 PB0, 3 PB1, 4 PB2, 5 PB3, 6 PB4, 7 PB5, 8 PB6, 9 PB7, 10 ~{{RESET}}, 11 PD0, 12 NC, 13 PD1, 14 PD2, 15 PD3, 16 PD4, 17 PD5, 18 PD6, 19 PD7, 20 XTAL2, 21 XTAL1, 22 GND, 23 NC, 24 PC0, 25 PC1, 26 PC2, 27 PC3, 28 PC4, 29 PC5, 30 PC6, 31 PC7, 32 PE2, 33 PE1, 34 NC, 35 PE0, 36 PA7, 37 PA6, 38 PA5, 39 PA4, 40 PA3, 41 PA2, 42 PA1, 43 PA0, 44 VCC

## ATmega8515-16M
designator *  value ATmega8515-16M  Reference: U
16MHz, 8kB Flash, 512B SRAM, 512B EEPROM, QFN-44; ki_keywords: AVR 8bit Microcontroller MegaAVR; ki_fp_filters: QFN*1EP*7x7mm*P0.5mm*; Footprint: Package_DFN_QFN:QFN-44-1EP_7x7mm_P0.5mm_EP5.2x5.2mm; Datasheet: http://ww1.microchip.com/downloads/en/DeviceDoc/doc2512.pdf; Description_: 16MHz, 8kB Flash, 512B SRAM, 512B EEPROM, QFN-44
pins: 1 PB5, 2 PB6, 3 PB7, 4 ~{{RESET}}, 5 PD0, 6 NC, 7 PD1, 8 PD2, 9 PD3, 10 PD4, 11 PD5, 12 PD6, 13 PD7, 14 XTAL2, 15 XTAL1, 16 GND, 17 NC, 18 PC0, 19 PC1, 20 PC2, 21 PC3, 22 PC4, 23 PC5, 24 PC6, 25 PC7, 26 PE2, 27 PE1, 28 NC, 29 PE0, 30 PA7, 31 PA6, 32 PA5, 33 PA4, 34 PA3, 35 PA2, 36 PA1, 37 PA0, 38 VCC, 39 NC, 40 PB0, 41 PB1, 42 PB2, 43 PB3, 44 PB4, 45 GND

## ATmega8515-16P
designator *  value ATmega8515-16P  Reference: U
16MHz, 8kB Flash, 512B SRAM, 512B EEPROM, DIP-40; ki_keywords: AVR 8bit Microcontroller MegaAVR; ki_fp_filters: DIP*W15.24mm*; Footprint: Package_DIP:DIP-40_W15.24mm; Datasheet: http://ww1.microchip.com/downloads/en/DeviceDoc/doc2512.pdf; Description_: 16MHz, 8kB Flash, 512B SRAM, 512B EEPROM, DIP-40
pins: 1 PB0, 2 PB1, 3 PB2, 4 PB3, 5 PB4, 6 PB5, 7 PB6, 8 PB7, 9 ~{{RESET}}, 10 PD0, 11 PD1, 12 PD2, 13 PD3, 14 PD4, 15 PD5, 16 PD6, 17 PD7, 18 XTAL2, 19 XTAL1, 20 GND, 21 PC0, 22 PC1, 23 PC2, 24 PC3, 25 PC4, 26 PC5, 27 PC6, 28 PC7, 29 PE2, 30 PE1, 31 PE0, 32 PA7, 33 PA6, 34 PA5, 35 PA4, 36 PA3, 37 PA2, 38 PA1, 39 PA0, 40 VCC

## ATmega8515L-8A
designator *  value ATmega8515L-8A  Reference: U
8MHz, 8kB Flash, 512B SRAM, 512B EEPROM, TQFP-44; ki_keywords: AVR 8bit Microcontroller MegaAVR; ki_fp_filters: TQFP*10x10mm*P0.8mm*; Footprint: Package_QFP:TQFP-44_10x10mm_P0.8mm; Datasheet: http://ww1.microchip.com/downloads/en/DeviceDoc/doc2512.pdf; Description_: 8MHz, 8kB Flash, 512B SRAM, 512B EEPROM, TQFP-44
pins: 1 PB5, 2 PB6, 3 PB7, 4 ~{{RESET}}, 5 PD0, 6 NC, 7 PD1, 8 PD2, 9 PD3, 10 PD4, 11 PD5, 12 PD6, 13 PD7, 14 XTAL2, 15 XTAL1, 16 GND, 17 NC, 18 PC0, 19 PC1, 20 PC2, 21 PC3, 22 PC4, 23 PC5, 24 PC6, 25 PC7, 26 PE2, 27 PE1, 28 NC, 29 PE0, 30 PA7, 31 PA6, 32 PA5, 33 PA4, 34 PA3, 35 PA2, 36 PA1, 37 PA0, 38 VCC, 39 NC, 40 PB0, 41 PB1, 42 PB2, 43 PB3, 44 PB4

## ATmega8515L-8J
designator *  value ATmega8515L-8J  Reference: U
8MHz, 8kB Flash, 512B SRAM, 512B EEPROM, PLCC-44; ki_keywords: AVR 8bit Microcontroller MegaAVR; ki_fp_filters: PLCC*; Footprint: Package_LCC:PLCC-44; Datasheet: http://ww1.microchip.com/downloads/en/DeviceDoc/doc2512.pdf; Description_: 8MHz, 8kB Flash, 512B SRAM, 512B EEPROM, PLCC-44
pins: 1 NC, 2 PB0, 3 PB1, 4 PB2, 5 PB3, 6 PB4, 7 PB5, 8 PB6, 9 PB7, 10 ~{{RESET}}, 11 PD0, 12 NC, 13 PD1, 14 PD2, 15 PD3, 16 PD4, 17 PD5, 18 PD6, 19 PD7, 20 XTAL2, 21 XTAL1, 22 GND, 23 NC, 24 PC0, 25 PC1, 26 PC2, 27 PC3, 28 PC4, 29 PC5, 30 PC6, 31 PC7, 32 PE2, 33 PE1, 34 NC, 35 PE0, 36 PA7, 37 PA6, 38 PA5, 39 PA4, 40 PA3, 41 PA2, 42 PA1, 43 PA0, 44 VCC

## ATmega8515L-8M
designator *  value ATmega8515L-8M  Reference: U
8MHz, 8kB Flash, 512B SRAM, 512B EEPROM, QFN-44; ki_keywords: AVR 8bit Microcontroller MegaAVR; ki_fp_filters: QFN*1EP*7x7mm*P0.5mm*; Footprint: Package_DFN_QFN:QFN-44-1EP_7x7mm_P0.5mm_EP5.2x5.2mm; Datasheet: http://ww1.microchip.com/downloads/en/DeviceDoc/doc2512.pdf; Description_: 8MHz, 8kB Flash, 512B SRAM, 512B EEPROM, QFN-44
pins: 1 PB5, 2 PB6, 3 PB7, 4 ~{{RESET}}, 5 PD0, 6 NC, 7 PD1, 8 PD2, 9 PD3, 10 PD4, 11 PD5, 12 PD6, 13 PD7, 14 XTAL2, 15 XTAL1, 16 GND, 17 NC, 18 PC0, 19 PC1, 20 PC2, 21 PC3, 22 PC4, 23 PC5, 24 PC6, 25 PC7, 26 PE2, 27 PE1, 28 NC, 29 PE0, 30 PA7, 31 PA6, 32 PA5, 33 PA4, 34 PA3, 35 PA2, 36 PA1, 37 PA0, 38 VCC, 39 NC, 40 PB0, 41 PB1, 42 PB2, 43 PB3, 44 PB4, 45 GND

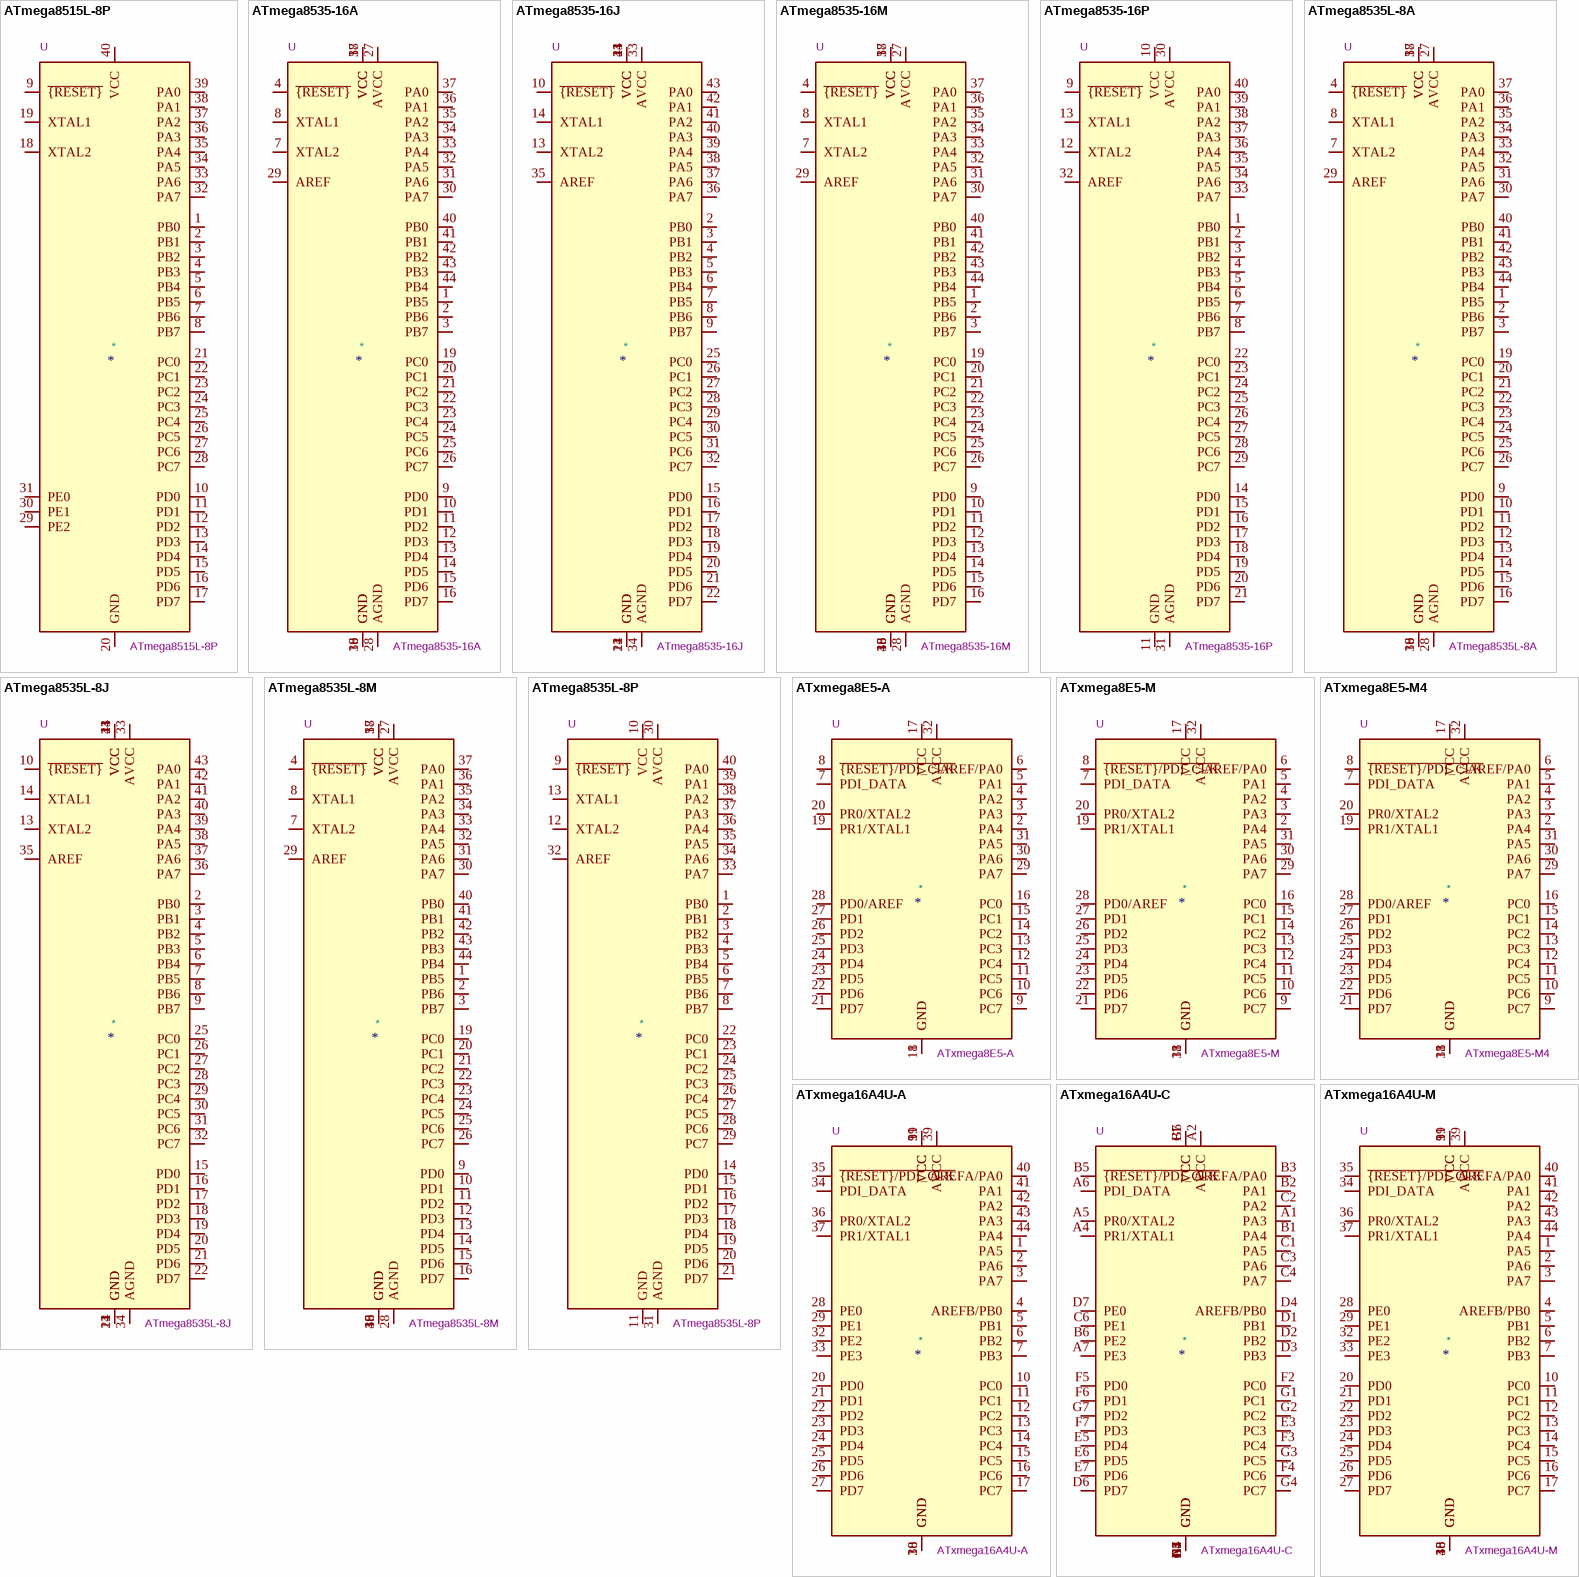
[diagram p30: symbols ATmega8515L-8P to ATxmega16A4U-M]

## ATmega8515L-8P
designator *  value ATmega8515L-8P  Reference: U
8MHz, 8kB Flash, 512B SRAM, 512B EEPROM, DIP-40; ki_keywords: AVR 8bit Microcontroller MegaAVR; ki_fp_filters: DIP*W15.24mm*; Footprint: Package_DIP:DIP-40_W15.24mm; Datasheet: http://ww1.microchip.com/downloads/en/DeviceDoc/doc2512.pdf; Description_: 8MHz, 8kB Flash, 512B SRAM, 512B EEPROM, DIP-40
pins: 1 PB0, 2 PB1, 3 PB2, 4 PB3, 5 PB4, 6 PB5, 7 PB6, 8 PB7, 9 ~{{RESET}}, 10 PD0, 11 PD1, 12 PD2, 13 PD3, 14 PD4, 15 PD5, 16 PD6, 17 PD7, 18 XTAL2, 19 XTAL1, 20 GND, 21 PC0, 22 PC1, 23 PC2, 24 PC3, 25 PC4, 26 PC5, 27 PC6, 28 PC7, 29 PE2, 30 PE1, 31 PE0, 32 PA7, 33 PA6, 34 PA5, 35 PA4, 36 PA3, 37 PA2, 38 PA1, 39 PA0, 40 VCC

## ATmega8535-16A
designator *  value ATmega8535-16A  Reference: U
16MHz, 8kB Flash, 512B SRAM, 512B EEPROM, TQFP-44; ki_keywords: AVR 8bit Microcontroller MegaAVR; ki_fp_filters: TQFP*10x10mm*P0.8mm*; Footprint: Package_QFP:TQFP-44_10x10mm_P0.8mm; Datasheet: http://ww1.microchip.com/downloads/en/DeviceDoc/doc2502.pdf; Description_: 16MHz, 8kB Flash, 512B SRAM, 512B EEPROM, TQFP-44
pins: 1 PB5, 2 PB6, 3 PB7, 4 ~{{RESET}}, 5 VCC, 6 GND, 7 XTAL2, 8 XTAL1, 9 PD0, 10 PD1, 11 PD2, 12 PD3, 13 PD4, 14 PD5, 15 PD6, 16 PD7, 17 VCC, 18 GND, 19 PC0, 20 PC1, 21 PC2, 22 PC3, 23 PC4, 24 PC5, 25 PC6, 26 PC7, 27 AVCC, 28 AGND, 29 AREF, 30 PA7, 31 PA6, 32 PA5, 33 PA4, 34 PA3, 35 PA2, 36 PA1, 37 PA0, 38 VCC, 39 GND, 40 PB0, 41 PB1, 42 PB2, 43 PB3, 44 PB4

## ATmega8535-16J
designator *  value ATmega8535-16J  Reference: U
16MHz, 8kB Flash, 512B SRAM, 512B EEPROM, PLCC-44; ki_keywords: AVR 8bit Microcontroller MegaAVR; ki_fp_filters: PLCC*; Footprint: Package_LCC:PLCC-44; Datasheet: http://ww1.microchip.com/downloads/en/DeviceDoc/doc2502.pdf; Description_: 16MHz, 8kB Flash, 512B SRAM, 512B EEPROM, PLCC-44
pins: 1 GND, 2 PB0, 3 PB1, 4 PB2, 5 PB3, 6 PB4, 7 PB5, 8 PB6, 9 PB7, 10 ~{{RESET}}, 11 VCC, 12 GND, 13 XTAL2, 14 XTAL1, 15 PD0, 16 PD1, 17 PD2, 18 PD3, 19 PD4, 20 PD5, 21 PD6, 22 PD7, 23 VCC, 24 GND, 25 PC0, 26 PC1, 27 PC2, 28 PC3, 29 PC4, 30 PC5, 31 PC6, 32 PC7, 33 AVCC, 34 AGND, 35 AREF, 36 PA7, 37 PA6, 38 PA5, 39 PA4, 40 PA3, 41 PA2, 42 PA1, 43 PA0, 44 VCC

## ATmega8535-16M
designator *  value ATmega8535-16M  Reference: U
16MHz, 8kB Flash, 512B SRAM, 512B EEPROM, QFN-44; ki_keywords: AVR 8bit Microcontroller MegaAVR; ki_fp_filters: QFN*1EP*7x7mm*P0.5mm*; Footprint: Package_DFN_QFN:QFN-44-1EP_7x7mm_P0.5mm_EP5.2x5.2mm; Datasheet: http://ww1.microchip.com/downloads/en/DeviceDoc/doc2502.pdf; Description_: 16MHz, 8kB Flash, 512B SRAM, 512B EEPROM, QFN-44
pins: 1 PB5, 2 PB6, 3 PB7, 4 ~{{RESET}}, 5 VCC, 6 GND, 7 XTAL2, 8 XTAL1, 9 PD0, 10 PD1, 11 PD2, 12 PD3, 13 PD4, 14 PD5, 15 PD6, 16 PD7, 17 VCC, 18 GND, 19 PC0, 20 PC1, 21 PC2, 22 PC3, 23 PC4, 24 PC5, 25 PC6, 26 PC7, 27 AVCC, 28 AGND, 29 AREF, 30 PA7, 31 PA6, 32 PA5, 33 PA4, 34 PA3, 35 PA2, 36 PA1, 37 PA0, 38 VCC, 39 GND, 40 PB0, 41 PB1, 42 PB2, 43 PB3, 44 PB4, 45 GND

## ATmega8535-16P
designator *  value ATmega8535-16P  Reference: U
16MHz, 8kB Flash, 512B SRAM, 512B EEPROM, DIP-40; ki_keywords: AVR 8bit Microcontroller MegaAVR; ki_fp_filters: DIP*W15.24mm*; Footprint: Package_DIP:DIP-40_W15.24mm; Datasheet: http://ww1.microchip.com/downloads/en/DeviceDoc/doc2502.pdf; Description_: 16MHz, 8kB Flash, 512B SRAM, 512B EEPROM, DIP-40
pins: 1 PB0, 2 PB1, 3 PB2, 4 PB3, 5 PB4, 6 PB5, 7 PB6, 8 PB7, 9 ~{{RESET}}, 10 VCC, 11 GND, 12 XTAL2, 13 XTAL1, 14 PD0, 15 PD1, 16 PD2, 17 PD3, 18 PD4, 19 PD5, 20 PD6, 21 PD7, 22 PC0, 23 PC1, 24 PC2, 25 PC3, 26 PC4, 27 PC5, 28 PC6, 29 PC7, 30 AVCC, 31 AGND, 32 AREF, 33 PA7, 34 PA6, 35 PA5, 36 PA4, 37 PA3, 38 PA2, 39 PA1, 40 PA0

## ATmega8535L-8A
designator *  value ATmega8535L-8A  Reference: U
8MHz, 8kB Flash, 512B SRAM, 512B EEPROM, TQFP-44; ki_keywords: AVR 8bit Microcontroller MegaAVR; ki_fp_filters: TQFP*10x10mm*P0.8mm*; Footprint: Package_QFP:TQFP-44_10x10mm_P0.8mm; Datasheet: http://ww1.microchip.com/downloads/en/DeviceDoc/doc2502.pdf; Description_: 8MHz, 8kB Flash, 512B SRAM, 512B EEPROM, TQFP-44
pins: 1 PB5, 2 PB6, 3 PB7, 4 ~{{RESET}}, 5 VCC, 6 GND, 7 XTAL2, 8 XTAL1, 9 PD0, 10 PD1, 11 PD2, 12 PD3, 13 PD4, 14 PD5, 15 PD6, 16 PD7, 17 VCC, 18 GND, 19 PC0, 20 PC1, 21 PC2, 22 PC3, 23 PC4, 24 PC5, 25 PC6, 26 PC7, 27 AVCC, 28 AGND, 29 AREF, 30 PA7, 31 PA6, 32 PA5, 33 PA4, 34 PA3, 35 PA2, 36 PA1, 37 PA0, 38 VCC, 39 GND, 40 PB0, 41 PB1, 42 PB2, 43 PB3, 44 PB4

## ATmega8535L-8J
designator *  value ATmega8535L-8J  Reference: U
8MHz, 8kB Flash, 512B SRAM, 512B EEPROM, PLCC-44; ki_keywords: AVR 8bit Microcontroller MegaAVR; ki_fp_filters: PLCC*; Footprint: Package_LCC:PLCC-44; Datasheet: http://ww1.microchip.com/downloads/en/DeviceDoc/doc2502.pdf; Description_: 8MHz, 8kB Flash, 512B SRAM, 512B EEPROM, PLCC-44
pins: 1 GND, 2 PB0, 3 PB1, 4 PB2, 5 PB3, 6 PB4, 7 PB5, 8 PB6, 9 PB7, 10 ~{{RESET}}, 11 VCC, 12 GND, 13 XTAL2, 14 XTAL1, 15 PD0, 16 PD1, 17 PD2, 18 PD3, 19 PD4, 20 PD5, 21 PD6, 22 PD7, 23 VCC, 24 GND, 25 PC0, 26 PC1, 27 PC2, 28 PC3, 29 PC4, 30 PC5, 31 PC6, 32 PC7, 33 AVCC, 34 AGND, 35 AREF, 36 PA7, 37 PA6, 38 PA5, 39 PA4, 40 PA3, 41 PA2, 42 PA1, 43 PA0, 44 VCC

## ATmega8535L-8M
designator *  value ATmega8535L-8M  Reference: U
8MHz, 8kB Flash, 512B SRAM, 512B EEPROM, QFN-44; ki_keywords: AVR 8bit Microcontroller MegaAVR; ki_fp_filters: QFN*1EP*7x7mm*P0.5mm*; Footprint: Package_DFN_QFN:QFN-44-1EP_7x7mm_P0.5mm_EP5.2x5.2mm; Datasheet: http://ww1.microchip.com/downloads/en/DeviceDoc/doc2502.pdf; Description_: 8MHz, 8kB Flash, 512B SRAM, 512B EEPROM, QFN-44
pins: 1 PB5, 2 PB6, 3 PB7, 4 ~{{RESET}}, 5 VCC, 6 GND, 7 XTAL2, 8 XTAL1, 9 PD0, 10 PD1, 11 PD2, 12 PD3, 13 PD4, 14 PD5, 15 PD6, 16 PD7, 17 VCC, 18 GND, 19 PC0, 20 PC1, 21 PC2, 22 PC3, 23 PC4, 24 PC5, 25 PC6, 26 PC7, 27 AVCC, 28 AGND, 29 AREF, 30 PA7, 31 PA6, 32 PA5, 33 PA4, 34 PA3, 35 PA2, 36 PA1, 37 PA0, 38 VCC, 39 GND, 40 PB0, 41 PB1, 42 PB2, 43 PB3, 44 PB4, 45 GND

## ATmega8535L-8P
designator *  value ATmega8535L-8P  Reference: U
8MHz, 8kB Flash, 512B SRAM, 512B EEPROM, DIP-40; ki_keywords: AVR 8bit Microcontroller MegaAVR; ki_fp_filters: DIP*W15.24mm*; Footprint: Package_DIP:DIP-40_W15.24mm; Datasheet: http://ww1.microchip.com/downloads/en/DeviceDoc/doc2502.pdf; Description_: 8MHz, 8kB Flash, 512B SRAM, 512B EEPROM, DIP-40
pins: 1 PB0, 2 PB1, 3 PB2, 4 PB3, 5 PB4, 6 PB5, 7 PB6, 8 PB7, 9 ~{{RESET}}, 10 VCC, 11 GND, 12 XTAL2, 13 XTAL1, 14 PD0, 15 PD1, 16 PD2, 17 PD3, 18 PD4, 19 PD5, 20 PD6, 21 PD7, 22 PC0, 23 PC1, 24 PC2, 25 PC3, 26 PC4, 27 PC5, 28 PC6, 29 PC7, 30 AVCC, 31 AGND, 32 AREF, 33 PA7, 34 PA6, 35 PA5, 36 PA4, 37 PA3, 38 PA2, 39 PA1, 40 PA0

## ATxmega8E5-A
designator *  value ATxmega8E5-A  Reference: U
32MHz, 8kB Flash, 2kB Boot, 1kB SRAM, 512B EEPROM, TQFP-32; ki_keywords: AVR 8/16bit Microcontroller XMegaAVR; ki_fp_filters: TQFP*7x7mm*P0.8mm*; Footprint: Package_QFP:TQFP-32_7x7mm_P0.8mm; Datasheet: http://ww1.microchip.com/downloads/en/DeviceDoc/Atmel-8153-8-and-16-bit-AVR-Microcontroller-XMEGA-E-ATxmega8E5-ATxmega16E5-ATxmega32E5_Datasheet.pdf; Description_: 32MHz, 8kB Flash, 2kB Boot, 1kB SRAM, 512B EEPROM, TQFP-32
pins: 1 GND, 2 PA4, 3 PA3, 4 PA2, 5 PA1, 6 AREF/PA0, 7 PDI_DATA, 8 ~{{RESET}/PDI_CLK}, 9 PC7, 10 PC6, 11 PC5, 12 PC4, 13 PC3, 14 PC2, 15 PC1, 16 PC0, 17 VCC, 18 GND, 19 PR1/XTAL1, 20 PR0/XTAL2, 21 PD7, 22 PD6, 23 PD5, 24 PD4, 25 PD3, 26 PD2, 27 PD1, 28 PD0/AREF, 29 PA7, 30 PA6, 31 PA5, 32 AVCC

## ATxmega8E5-M
designator *  value ATxmega8E5-M  Reference: U
32MHz, 8kB Flash, 2kB Boot, 1kB SRAM, 512B EEPROM, QFN-32; ki_keywords: AVR 8/16bit Microcontroller XMegaAVR; ki_fp_filters: QFN*1EP*5x5mm*P0.5mm*; Footprint: Package_DFN_QFN:QFN-32-1EP_5x5mm_P0.5mm_EP3.1x3.1mm; Datasheet: http://ww1.microchip.com/downloads/en/DeviceDoc/Atmel-8153-8-and-16-bit-AVR-Microcontroller-XMEGA-E-ATxmega8E5-ATxmega16E5-ATxmega32E5_Datasheet.pdf; Description_: 32MHz, 8kB Flash, 2kB Boot, 1kB SRAM, 512B EEPROM, QFN-32
pins: 1 GND, 2 PA4, 3 PA3, 4 PA2, 5 PA1, 6 AREF/PA0, 7 PDI_DATA, 8 ~{{RESET}/PDI_CLK}, 9 PC7, 10 PC6, 11 PC5, 12 PC4, 13 PC3, 14 PC2, 15 PC1, 16 PC0, 17 VCC, 18 GND, 19 PR1/XTAL1, 20 PR0/XTAL2, 21 PD7, 22 PD6, 23 PD5, 24 PD4, 25 PD3, 26 PD2, 27 PD1, 28 PD0/AREF, 29 PA7, 30 PA6, 31 PA5, 32 AVCC, 33 GND

## ATxmega8E5-M4
designator *  value ATxmega8E5-M4  Reference: U
32MHz, 8kB Flash, 2kB Boot, 1kB SRAM, 512B EEPROM, QFN-32; ki_keywords: AVR 8/16bit Microcontroller XMegaAVR; ki_fp_filters: QFN*1EP*4x4mm*P0.4mm*; Footprint: Package_DFN_QFN:QFN-32-1EP_4x4mm_P0.4mm_EP2.9x2.9mm; Datasheet: http://ww1.microchip.com/downloads/en/DeviceDoc/Atmel-8153-8-and-16-bit-AVR-Microcontroller-XMEGA-E-ATxmega8E5-ATxmega16E5-ATxmega32E5_Datasheet.pdf; Description_: 32MHz, 8kB Flash, 2kB Boot, 1kB SRAM, 512B EEPROM, QFN-32
pins: 1 GND, 2 PA4, 3 PA3, 4 PA2, 5 PA1, 6 AREF/PA0, 7 PDI_DATA, 8 ~{{RESET}/PDI_CLK}, 9 PC7, 10 PC6, 11 PC5, 12 PC4, 13 PC3, 14 PC2, 15 PC1, 16 PC0, 17 VCC, 18 GND, 19 PR1/XTAL1, 20 PR0/XTAL2, 21 PD7, 22 PD6, 23 PD5, 24 PD4, 25 PD3, 26 PD2, 27 PD1, 28 PD0/AREF, 29 PA7, 30 PA6, 31 PA5, 32 AVCC, 33 GND

## ATxmega16A4U-A
designator *  value ATxmega16A4U-A  Reference: U
32MHz, 16kB Flash, 4kB Boot, 2kB SRAM, 1kB EEPROM, JTAG, USB, TQFP-44; ki_keywords: AVR 8/16bit Microcontroller XMegaAVR; ki_fp_filters: TQFP*10x10mm*P0.8mm*; Footprint: Package_QFP:TQFP-44_10x10mm_P0.8mm; Datasheet: http://ww1.microchip.com/downloads/en/DeviceDoc/Atmel-8387-8-and16-bit-AVR-Microcontroller-XMEGA-A4U_Datasheet.pdf; Description_: 32MHz, 16kB Flash, 4kB Boot, 2kB SRAM, 1kB EEPROM, JTAG, USB, TQFP-44
pins: 1 PA5, 2 PA6, 3 PA7, 4 AREFB/PB0, 5 PB1, 6 PB2, 7 PB3, 8 GND, 9 VCC, 10 PC0, 11 PC1, 12 PC2, 13 PC3, 14 PC4, 15 PC5, 16 PC6, 17 PC7, 18 GND, 19 VCC, 20 PD0, 21 PD1, 22 PD2, 23 PD3, 24 PD4, 25 PD5, 26 PD6, 27 PD7, 28 PE0, 29 PE1, 30 GND, 31 VCC, 32 PE2, 33 PE3, 34 PDI_DATA, 35 ~{{RESET}/PDI_CLK}, 36 PR0/XTAL2, 37 PR1/XTAL1, 38 GND, 39 AVCC, 40 AREFA/PA0, 41 PA1, 42 PA2, 43 PA3, 44 PA4

## ATxmega16A4U-C
designator *  value ATxmega16A4U-C  Reference: U
32MHz, 16kB Flash, 4kB Boot, 2kB SRAM, 1kB EEPROM, JTAG, USB, VFBGA-49; ki_keywords: AVR 8/16bit Microcontroller XMegaAVR; ki_fp_filters: VFBGA*5.0x5.0mm*Layout7x7*P0.65mm*; Footprint: Package_BGA:VFBGA-49_5.0x5.0mm_Layout7x7_P0.65mm; Datasheet: http://ww1.microchip.com/downloads/en/DeviceDoc/Atmel-8387-8-and16-bit-AVR-Microcontroller-XMEGA-A4U_Datasheet.pdf; Description_: 32MHz, 16kB Flash, 4kB Boot, 2kB SRAM, 1kB EEPROM, JTAG, USB, VFBGA-49
pins: A1 PA3, A2 AVCC, A3 GND, A4 PR1/XTAL1, A5 PR0/XTAL2, A6 PDI_DATA, A7 PE3, B1 PA4, B2 PA1, B3 AREFA/PA0, B4 GND, B5 ~{{RESET}/PDI_CLK}, B6 PE2, B7 VCC, C1 PA5, C2 PA2, C3 PA6, C4 PA7, C5 GND, C6 PE1, C7 GND, D1 PB1, D2 PB2, D3 PB3, D4 AREFB/PB0, D5 GND, D6 PD7, D7 PE0, E1 GND, E2 GND, E3 PC3, E4 GND, E5 PD4, E6 PD5, E7 PD6, F1 VCC, F2 PC0, F3 PC4, F4 PC6, F5 PD0, F6 PD1, F7 PD3, G1 PC1, G2 PC2, G3 PC5, G4 PC7, G5 GND, G6 VCC, G7 PD2

## ATxmega16A4U-M
designator *  value ATxmega16A4U-M  Reference: U
32MHz, 16kB Flash, 4kB Boot, 2kB SRAM, 1kB EEPROM, JTAG, USB, QFN-44; ki_keywords: AVR 8/16bit Microcontroller XMegaAVR; ki_fp_filters: QFN*1EP*7x7mm*P0.5mm*; Footprint: Package_DFN_QFN:QFN-44-1EP_7x7mm_P0.5mm_EP5.2x5.2mm; Datasheet: http://ww1.microchip.com/downloads/en/DeviceDoc/Atmel-8387-8-and16-bit-AVR-Microcontroller-XMEGA-A4U_Datasheet.pdf; Description_: 32MHz, 16kB Flash, 4kB Boot, 2kB SRAM, 1kB EEPROM, JTAG, USB, QFN-44
pins: 1 PA5, 2 PA6, 3 PA7, 4 AREFB/PB0, 5 PB1, 6 PB2, 7 PB3, 8 GND, 9 VCC, 10 PC0, 11 PC1, 12 PC2, 13 PC3, 14 PC4, 15 PC5, 16 PC6, 17 PC7, 18 GND, 19 VCC, 20 PD0, 21 PD1, 22 PD2, 23 PD3, 24 PD4, 25 PD5, 26 PD6, 27 PD7, 28 PE0, 29 PE1, 30 GND, 31 VCC, 32 PE2, 33 PE3, 34 PDI_DATA, 35 ~{{RESET}/PDI_CLK}, 36 PR0/XTAL2, 37 PR1/XTAL1, 38 GND, 39 AVCC, 40 AREFA/PA0, 41 PA1, 42 PA2, 43 PA3, 44 PA4, 45 GND

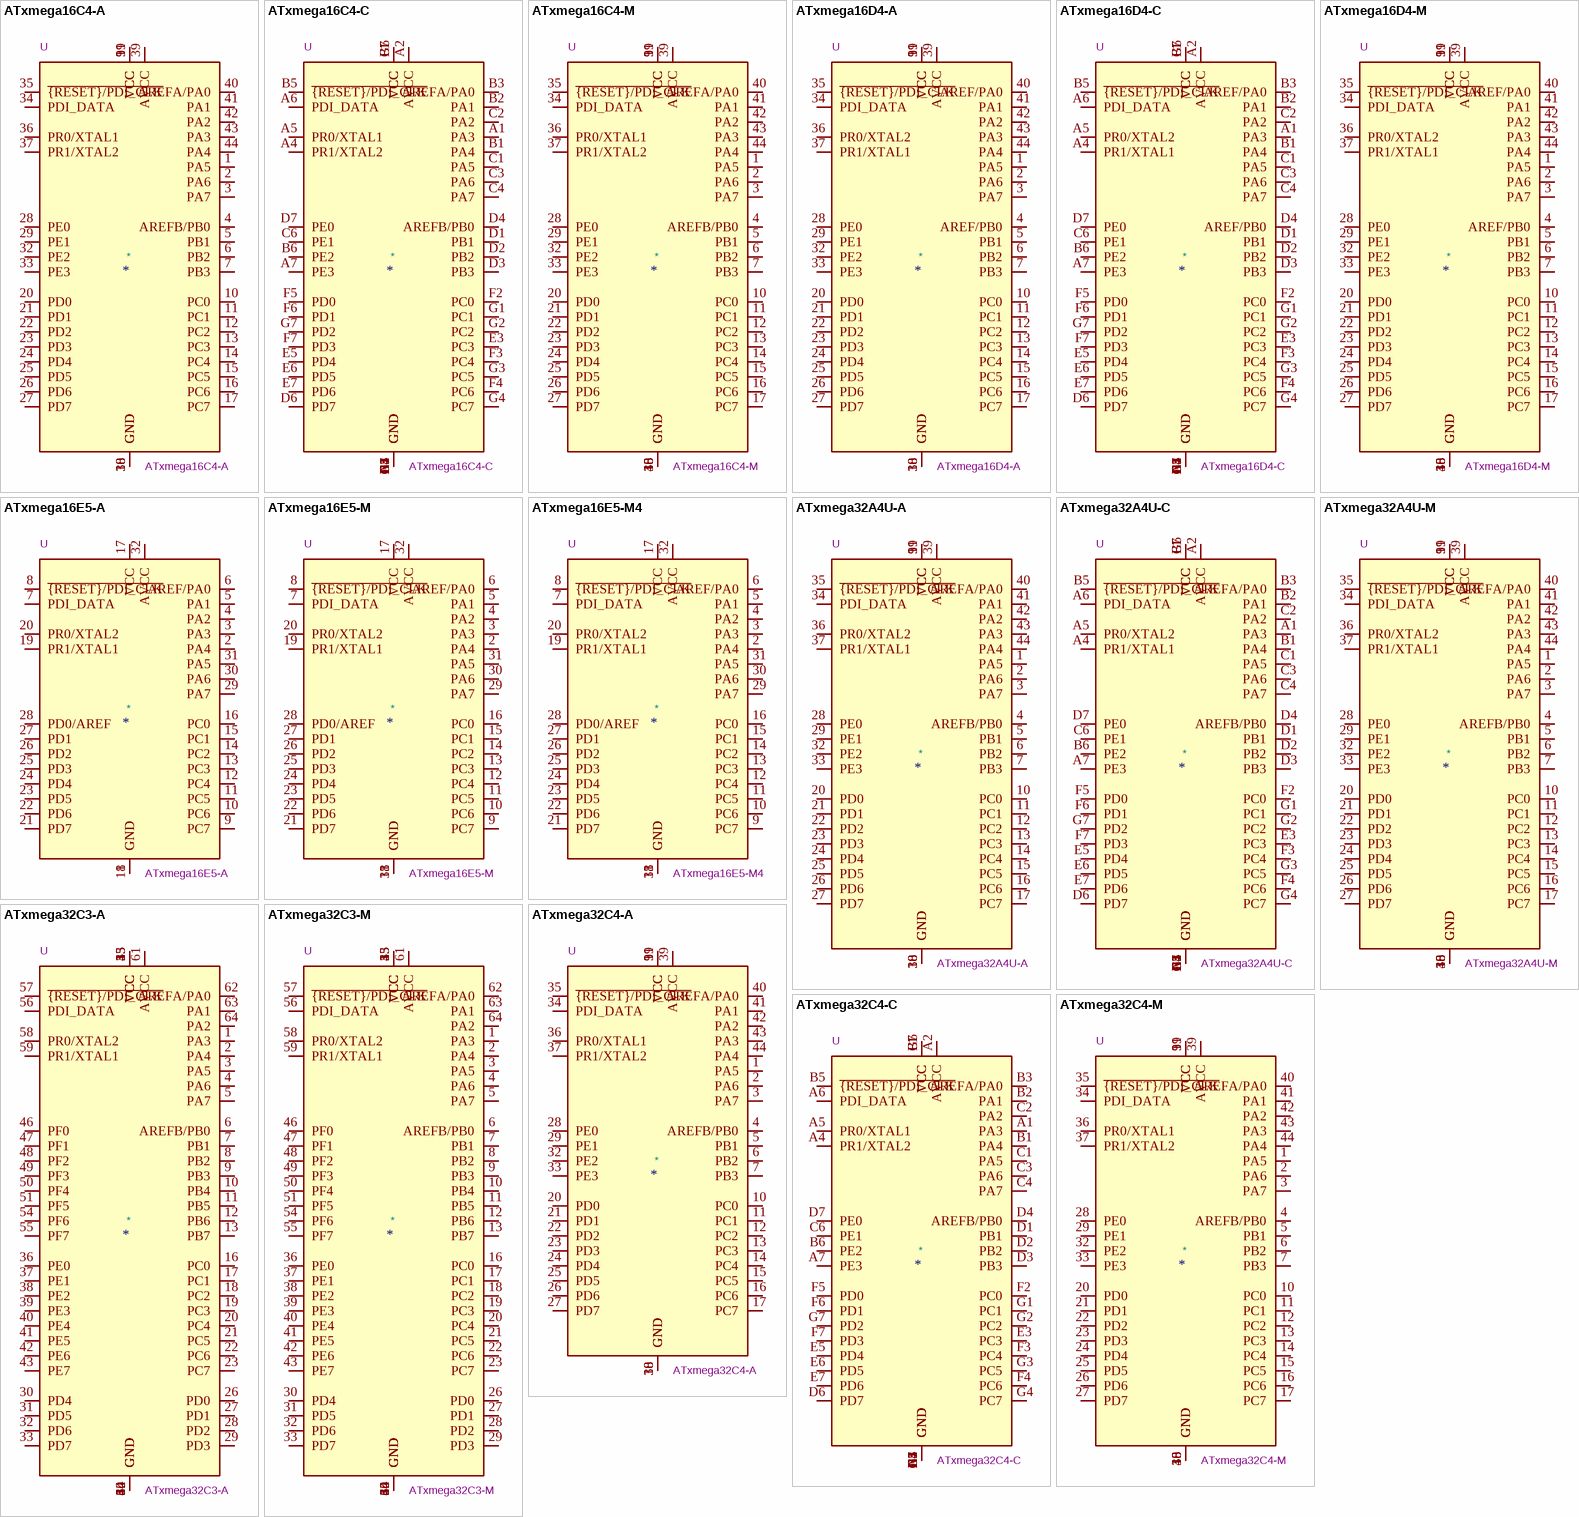
[diagram p31: symbols ATxmega16C4-A to ATxmega32C4-M]

## ATxmega16C4-A
designator *  value ATxmega16C4-A  Reference: U
32MHz, 16kB Flash, 4kB Boot, 2kB SRAM, 1kB EEPROM, JTAG, TQFP-44; ki_keywords: AVR 8/16bit Microcontroller XMegaAVR; ki_fp_filters: TQFP*10x10mm*P0.8mm*; Footprint: Package_QFP:TQFP-44_10x10mm_P0.8mm; Datasheet: http://ww1.microchip.com/downloads/en/DeviceDoc/Atmel-8493-8-and-32-bit-AVR-XMEGA-Microcontrollers-ATxmega16C4-ATxmega32C4_Datasheet.pdf; Description_: 32MHz, 16kB Flash, 4kB Boot, 2kB SRAM, 1kB EEPROM, JTAG, TQFP-44
pins: 1 PA5, 2 PA6, 3 PA7, 4 AREFB/PB0, 5 PB1, 6 PB2, 7 PB3, 8 GND, 9 VCC, 10 PC0, 11 PC1, 12 PC2, 13 PC3, 14 PC4, 15 PC5, 16 PC6, 17 PC7, 18 GND, 19 VCC, 20 PD0, 21 PD1, 22 PD2, 23 PD3, 24 PD4, 25 PD5, 26 PD6, 27 PD7, 28 PE0, 29 PE1, 30 GND, 31 VCC, 32 PE2, 33 PE3, 34 PDI_DATA, 35 ~{{RESET}/PDI_CLK}, 36 PR0/XTAL1, 37 PR1/XTAL2, 38 GND, 39 AVCC, 40 AREFA/PA0, 41 PA1, 42 PA2, 43 PA3, 44 PA4

## ATxmega16C4-C
designator *  value ATxmega16C4-C  Reference: U
32MHz, 16kB Flash, 4kB Boot, 2kB SRAM, 1kB EEPROM, JTAG, VFBGA-49; ki_keywords: AVR 8/16bit Microcontroller XMegaAVR; ki_fp_filters: VFBGA*5.0x5.0mm*Layout7x7*P0.65mm*; Footprint: Package_BGA:VFBGA-49_5.0x5.0mm_Layout7x7_P0.65mm; Datasheet: http://ww1.microchip.com/downloads/en/DeviceDoc/Atmel-8493-8-and-32-bit-AVR-XMEGA-Microcontrollers-ATxmega16C4-ATxmega32C4_Datasheet.pdf; Description_: 32MHz, 16kB Flash, 4kB Boot, 2kB SRAM, 1kB EEPROM, JTAG, VFBGA-49
pins: A1 PA3, A2 AVCC, A3 GND, A4 PR1/XTAL2, A5 PR0/XTAL1, A6 PDI_DATA, A7 PE3, B1 PA4, B2 PA1, B3 AREFA/PA0, B4 GND, B5 ~{{RESET}/PDI_CLK}, B6 PE2, B7 VCC, C1 PA5, C2 PA2, C3 PA6, C4 PA7, C5 GND, C6 PE1, C7 GND, D1 PB1, D2 PB2, D3 PB3, D4 AREFB/PB0, D5 GND, D6 PD7, D7 PE0, E1 GND, E2 GND, E3 PC3, E4 GND, E5 PD4, E6 PD5, E7 PD6, F1 VCC, F2 PC0, F3 PC4, F4 PC6, F5 PD0, F6 PD1, F7 PD3, G1 PC1, G2 PC2, G3 PC5, G4 PC7, G5 GND, G6 VCC, G7 PD2

## ATxmega16C4-M
designator *  value ATxmega16C4-M  Reference: U
32MHz, 16kB Flash, 4kB Boot, 2kB SRAM, 1kB EEPROM, JTAG, QFN-44; ki_keywords: AVR 8/16bit Microcontroller XMegaAVR; ki_fp_filters: QFN*1EP*7x7mm*P0.5mm*; Footprint: Package_DFN_QFN:QFN-44-1EP_7x7mm_P0.5mm_EP5.2x5.2mm; Datasheet: http://ww1.microchip.com/downloads/en/DeviceDoc/Atmel-8493-8-and-32-bit-AVR-XMEGA-Microcontrollers-ATxmega16C4-ATxmega32C4_Datasheet.pdf; Description_: 32MHz, 16kB Flash, 4kB Boot, 2kB SRAM, 1kB EEPROM, JTAG, QFN-44
pins: 1 PA5, 2 PA6, 3 PA7, 4 AREFB/PB0, 5 PB1, 6 PB2, 7 PB3, 8 GND, 9 VCC, 10 PC0, 11 PC1, 12 PC2, 13 PC3, 14 PC4, 15 PC5, 16 PC6, 17 PC7, 18 GND, 19 VCC, 20 PD0, 21 PD1, 22 PD2, 23 PD3, 24 PD4, 25 PD5, 26 PD6, 27 PD7, 28 PE0, 29 PE1, 30 GND, 31 VCC, 32 PE2, 33 PE3, 34 PDI_DATA, 35 ~{{RESET}/PDI_CLK}, 36 PR0/XTAL1, 37 PR1/XTAL2, 38 GND, 39 AVCC, 40 AREFA/PA0, 41 PA1, 42 PA2, 43 PA3, 44 PA4, 45 GND

## ATxmega16D4-A
designator *  value ATxmega16D4-A  Reference: U
32MHz, 16kB Flash, 4kB Boot, 2kB SRAM, 1kB EEPROM, JTAG, TQFP-44; ki_keywords: AVR 8/16bit Microcontroller XMegaAVR; ki_fp_filters: TQFP*10x10mm*P0.8mm*; Footprint: Package_QFP:TQFP-44_10x10mm_P0.8mm; Datasheet: http://ww1.microchip.com/downloads/en/DeviceDoc/Atmel-8135-8-and-16-bit-AVR-microcontroller-ATxmega16D4-32D4-64D4-128D4_datasheet.pdf; Description_: 32MHz, 16kB Flash, 4kB Boot, 2kB SRAM, 1kB EEPROM, JTAG, TQFP-44
pins: 1 PA5, 2 PA6, 3 PA7, 4 AREF/PB0, 5 PB1, 6 PB2, 7 PB3, 8 GND, 9 VCC, 10 PC0, 11 PC1, 12 PC2, 13 PC3, 14 PC4, 15 PC5, 16 PC6, 17 PC7, 18 GND, 19 VCC, 20 PD0, 21 PD1, 22 PD2, 23 PD3, 24 PD4, 25 PD5, 26 PD6, 27 PD7, 28 PE0, 29 PE1, 30 GND, 31 VCC, 32 PE2, 33 PE3, 34 PDI_DATA, 35 ~{{RESET}/PDI_CLK}, 36 PR0/XTAL2, 37 PR1/XTAL1, 38 GND, 39 AVCC, 40 AREF/PA0, 41 PA1, 42 PA2, 43 PA3, 44 PA4